# Altium schematic symbol library RD3399-20181013_Library.SchLib: 411 symbols (part 8 of 13)
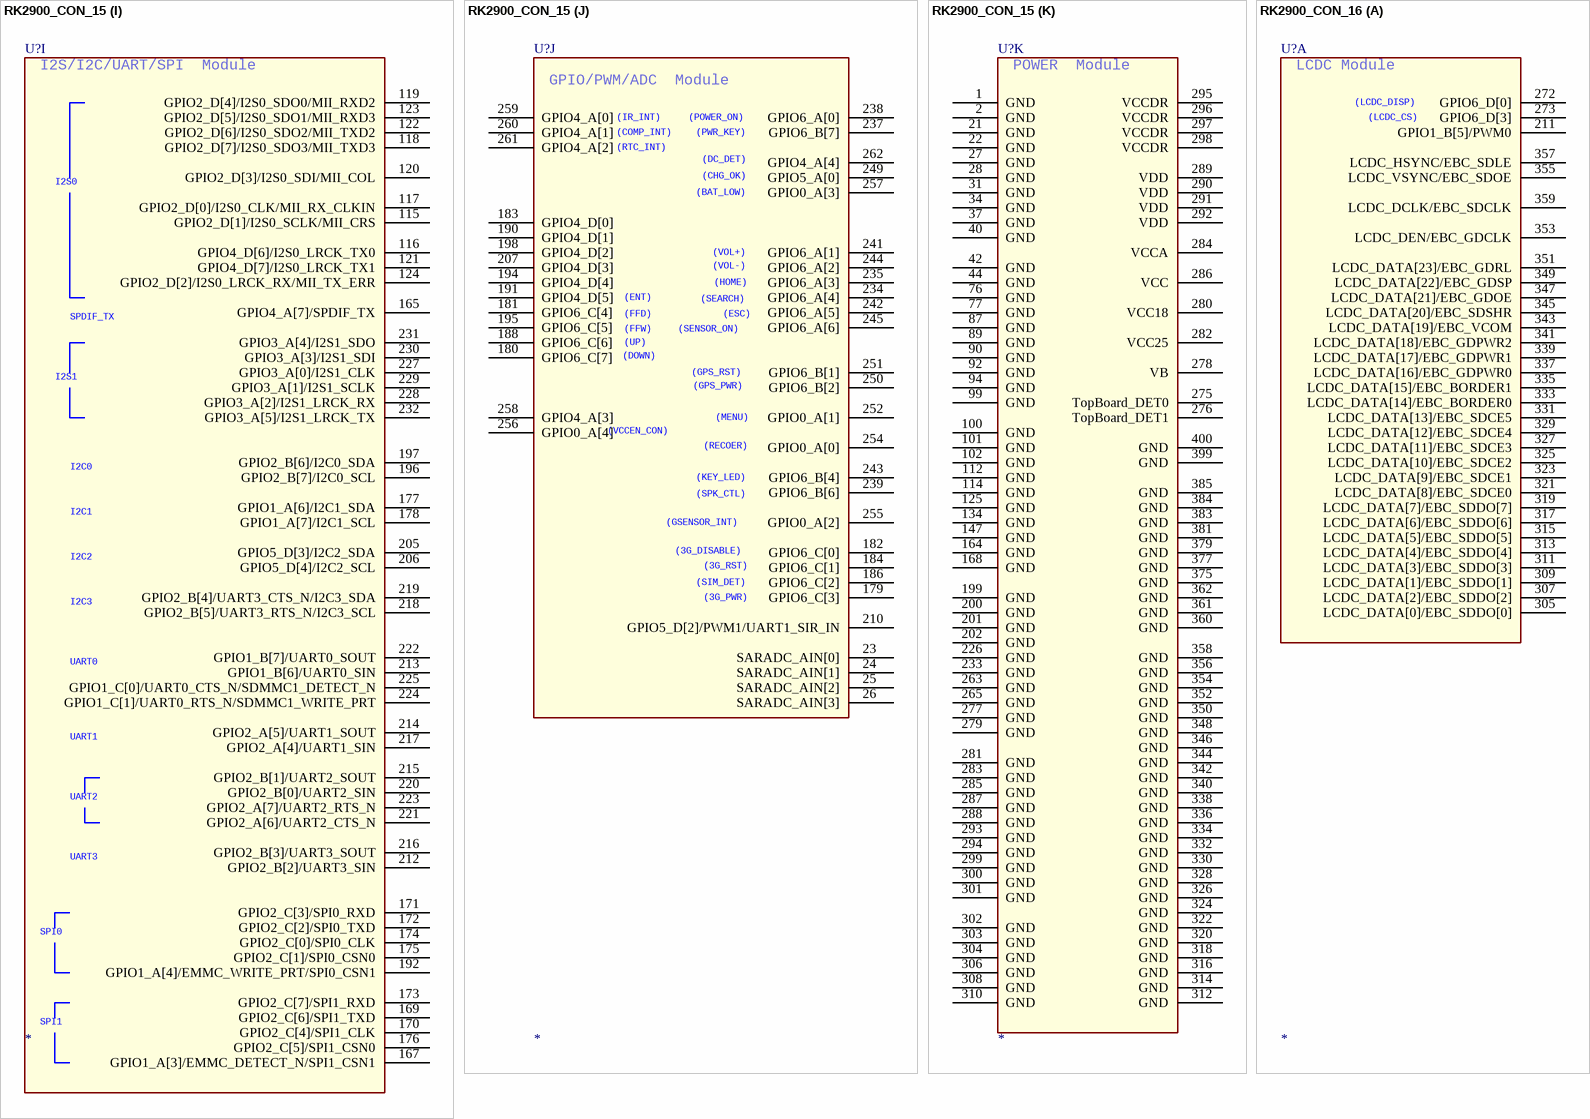
[diagram p192: symbols RK2900_CON_15 to RK2900_CON_16]

## RK2900_CON_15
designator U?
footprint RK2900_TOP
part A pins: 211 GPIO1_B[5]/PWM0, 272 GPIO6_D[0], 273 GPIO6_D[3], 305 LCDC_DATA[0]/EBC_SDDO[0], 307 LCDC_DATA[2]/EBC_SDDO[2], 309 LCDC_DATA[1]/EBC_SDDO[1], 311 LCDC_DATA[3]/EBC_SDDO[3], 313 LCDC_DATA[4]/EBC_SDDO[4], 315 LCDC_DATA[5]/EBC_SDDO[5], 317 LCDC_DATA[6]/EBC_SDDO[6], 319 LCDC_DATA[7]/EBC_SDDO[7], 321 LCDC_DATA[8]/EBC_SDCE0, 323 LCDC_DATA[9]/EBC_SDCE1, 325 LCDC_DATA[10]/EBC_SDCE2, 327 LCDC_DATA[11]/EBC_SDCE3, 329 LCDC_DATA[12]/EBC_SDCE4, 331 LCDC_DATA[13]/EBC_SDCE5, 333 LCDC_DATA[14]/EBC_BORDER0, 335 LCDC_DATA[15]/EBC_BORDER1, 337 LCDC_DATA[16]/EBC_GDPWR0, 339 LCDC_DATA[17]/EBC_GDPWR1, 341 LCDC_DATA[18]/EBC_GDPWR2, 343 LCDC_DATA[19]/EBC_VCOM, 345 LCDC_DATA[20]/EBC_SDSHR, 347 LCDC_DATA[21]/EBC_GDOE, 349 LCDC_DATA[22]/EBC_GDSP, 351 LCDC_DATA[23]/EBC_GDRL, 353 LCDC_DEN/EBC_GDCLK, 355 LCDC_VSYNC/EBC_SDOE, 357 LCDC_HSYNC/EBC_SDLE, 359 LCDC_DCLK/EBC_SDCLK
part B pins: 240 GPIO6_B[5], 271 GPIO6_D[2], 274 GPIO6_D[1], 363 GPIO1_B[0]/VIP_DATAIN[0], 364 GPIO1_B[1]/VIP_DATAIN[1], 365 GPIO1_B[2]/VIP_DATAIN[2], 366 GPIO1_B[3]/VIP_DATAIN[3], 367 VIP_DATAIN[4], 368 VIP_DATAIN[5], 369 VIP_DATAIN[6], 370 VIP_DATAIN[7], 371 VIP_DATAIN[8], 372 VIP_DATAIN[9], 373 VIP_DATAIN[10], 374 VIP_DATAIN[11], 376 VIP_VSYNC, 378 VIP_HREF, 380 VIP_CLKIN, 382 GPIO1_B[4]/VIP_CLKOUT
part C pins: 3 GPIO0_C[6]/EBC_SDCE4/SMC_DATA[14], 4 GPIO0_C[7]/EBC_SDCE5/SMC_DATA[15], 5 GPIO0_C[0]/EBC_GDSP/SMC_DATA[8], 6 GPIO0_C[1]/EBC_GDRL/SMC_DATA[9], 7 GPIO0_B[3]/EBC_BORDER0/SMC_ADDR[3]/HOST_DATA[3], 8 GPIO0_B[4]/EBC_BORDER1/SMC_WEN, 9 GPIO0_D[1]/EBC_GDCLK/SMC_ADDR[4]/HOST_DATA[4], 10 GPIO0_B[2]/EBC_SDCE2/SMC_ADDR[2]/HOST_DATA[2], 11 GPIO0_C[3]/EBC_GDPWR1/SMC_DATA[11], 12 GPIO0_B[7]/EBC_GDOE/SMC_OEN, 13 GPIO0_D[0]/EBC_SDOE/SMC_ADVN, 14 GPIO5_C[6]/EBC_SDDO[6]/SMC_DATA[6], 15 GPIO0_C[5]/EBC_SDCE3/SMC_DATA[13], 16 GPIO0_B[1]/EBC_SDCE1/SMC_ADDR[1]/HOST_DATA[1], 17 GPIO5_C[5]/EBC_SDDO[5]/SMC_DATA[5], 18 GPIO3_D[5]/SMC_ADDR[7]/HOST_DATA[7], 19 GPIO1_A[2]/SMC_CSN1, 20 GPIO0_C[4]/EBC_GDPWR2/SMC_DATA[12], 43 GPIO3_D[6]/SMC_ADDR[8]/HOST_DATA[8], 150 GPIO3_D[4]/HOST_WRN, 151 GPIO3_D[3]/HOST_RDN, 152 GPIO3_D[2]/HOST_CSN, 153 GPIO3_D[7]/SMC_ADDR[9]/HOST_DATA[9], 154 GPIO3_A[6]/SMC_ADDR[14]/HOST_DATA[14], 155 GPIO3_C[7]/SMC_ADDR[17]/HOST_DATA[17], 156 GPIO3_C[3]/SMC_ADDR[10]/HOST_DATA[10], 157 GPIO3_C[4]/SMC_ADDR[11]/HOST_DATA[11], 158 GPIO3_D[1]/SMC_ADDR[19]/HOST_ADDR1, 159 GPIO3_C[5]/SMC_ADDR[12]/HOST_DATA[12], 160 GPIO3_C[2]/SMC_ADDR[13]/HOST_DATA[13], 161 GPIO3_C[6]/SMC_ADDR[16]/HOST_DATA[16], 162 GPIO3_A[7]/SMC_ADDR[15]/HOST_DATA[15], 163 GPIO3_D[0]/SMC_ADDR[18]/HOST_ADDR0, 386 GPIO1_A[1]/SMC_CSN0, 387 GPIO5_C[4]/EBC_SDDO[4]/SMC_DATA[4], 388 GPIO5_D[1]/EBC_SDCLK/SMC_ADDR[6]/HOST_DATA[6], 389 GPIO0_B[5]/EBC_VCOM/SMC_BLSN0, 390 GPIO5_C[0]/EBC_SDDO[0]/SMC_DATA[0], 391 GPIO5_D[0]/EBC_SDLE/SMC_ADDR[5]/HOST_DATA[5], 392 GPIO5_C[1]/EBC_SDDO[1]/SMC_DATA[1], 393 GPIO0_B[6]/EBC_SDSHR/SMC_BLSN1/HOST_INT, 394 GPIO0_C[2]/EBC_GDPWR0/SMC_DATA[10], 395 GPIO5_C[2]/EBC_SDDO[2]/SMC_DATA[2], 396 GPIO5_C[3]/EBC_SDDO[3]/SMC_DATA[3], 397 GPIO5_C[7]/EBC_SDDO[7]/SMC_DATA[7], 398 GPIO0_B[0]/EBC_SDCE0/SMC_ADDR[0]/HOST_DATA[0]
part D pins: 29 OTG_DP, 30 OTG_DM, 32 HOST20_DM, 33 HOST20_DP, 35 HOST11_DM, 36 HOST11_DP, 38 OTG_ID, 39 OTG_VBUS, 41 RTCINT_OUT, 166 GPIO4_A[5]/OTG_DRV_VBUS, 187 GPIO4_A[6]/HOST20_DRV_VBUS, 264 NPOR
part E pins: 45 FLASH_ALE, 46 FLASH_DATA[1], 47 FLASH_RDY, 48 FLASH_RDN, 49 GPIO4_B[4]/FLASH_DATA[12], 50 FLASH_DATA[0], 51 FLASH_DATA[4], 52 GPIO4_B[7]/FLASH_DATA[15], 53 GPIO4_B[5]/FLASH_DATA[13], 54 FLASH_CLE, 55 GPIO4_B[1]/FLASH_DATA[9], 56 FLASH_DATA[5], 57 FLASH_CSN0, 58 FLASH_DATA[6], 59 GPIO4_B[0]/FLASH_DATA[8], 60 FLASH_DATA[7], 61 FLASH_DATA[2], 62 FLASH_DATA[3], 63 GPIO0_D[7]/FLASH_CSN6, 64 FLASH_WP, 65 FLASH_WRN, 66 GPIO4_B[6]/FLASH_DATA[14], 67 GPIO0_D[3]/FLASH_CSN2, 68 GPIO0_D[4]/FLASH_CSN3, 69 GPIO0_D[2]/FLASH_CSN1, 70 GPIO0_D[6]/FLASH_CSN5, 71 GPIO1_A[0]/FLASH_CSN7/MDDR_TQ, 72 GPIO0_A[5]/FLASH_DQS, 73 GPIO0_D[5]/FLASH_CSN4, 74 GPIO4_B[2]/FLASH_DATA[10], 75 GPIO4_B[3]/FLASH_DATA[11], 78 GPIO3_B[3]/EMMC_DATA1, 79 GPIO3_B[1]/EMMC_CMD, 80 GPIO3_B[6]/EMMC_DATA4, 81 GPIO3_C[1]/EMMC_DATA7, 82 GPIO3_B[5]/EMMC_DATA3, 83 GPIO3_B[4]/EMMC_DATA2, 84 GPIO3_B[2]/EMMC_DATA0, 85 GPIO3_C[0]/EMMC_DATA6, 86 GPIO3_B[7]/EMMC_DATA5, 88 GPIO3_B[0]/EMMC_CLKOUT, 203 GPIO1_A[5]/EMMC_PWR_EN/PWM3, 246 GPIO6_A[7]
part F pins: 91 GPIO1_C[2]/SDMMC1_CMD, 93 GPIO1_C[7]/SDMMC1_CLKOUT, 95 GPIO1_C[4]/SDMMC1_DATA1, 96 GPIO1_C[3]/SDMMC1_DATA0, 97 GPIO1_C[6]/SDMMC1_DATA3, 98 GPIO1_C[5]/SDMMC1_DATA2, 103 GPIO1_D[3]/SDMMC0_DATA1, 104 GPIO1_D[1]/SDMMC0_CMD, 105 GPIO1_D[5]/SDMMC0_DATA3, 106 GPIO2_A[1]/SDMMC0_DATA7, 107 GPIO1_D[7]/SDMMC0_DATA5, 108 GPIO1_D[2]/SDMMC0_DATA0, 109 GPIO2_A[0]/SDMMC0_DATA6, 110 GPIO1_D[6]/SDMMC0_DATA4, 111 GPIO1_D[4]/SDMMC0_DATA2, 113 GPIO1_D[0]/SDMMC0_CLKOUT, 185 GPIO5_D[7], 193 GPIO2_A[2]/SDMMC0_DETECT_N, 204 GPIO2_A[3]/SDMMC0_WRITE_PRT/PWM2/UART1_SIR_OUT, 208 GPIO5_D[5]/SDMMC0_PWR_EN, 209 GPIO5_D[6]/SDMMC1_PWR_EN
part G pins: 126 GPIO4_C[7]/RMII_RXD0/MII_RXD0, 127 GPIO4_C[3]/RMII_TXD0/MII_TXD0, 128 GPIO4_C[6]/RMII_RXD1/MII_RXD1, 129 GPIO4_C[1]/RMII_TX_EN/MII_TX_EN, 130 GPIO4_C[0]/RMII_CLKOUT/RMII_CLKIN, 131 GPIO4_C[2]/RMII_TXD1/MII_TXD1, 132 GPIO4_C[5]/RMII_CRS_DVALID/MII_RXD_VALID, 133 GPIO4_C[4]/RMII_RX_ERR/MII_RX_ERR, 148 GPIO5_A[3]/MII_TX_CLKIN, 149 GPIO0_A[6]/MII_MD, 189 GPIO0_A[7]/MII_MDCLK, 236 GPIO5_A[2], 248 GPIO6_B[0], 253 GPIO5_A[1], 266 TRST_N, 267 TCK, 268 TDI, 269 TMS, 270 TDO
part H pins: 135 GPIO5_A[7]/HSADC_DATA2, 136 GPIO5_B[5]/HSADC_DATA8/TS_VALID, 137 GPIO5_A[5]/HSADC_DATA0, 138 GPIO5_B[1]/HSADC_DATA4, 139 GPIO5_B[0]/HSADC_DATA3, 140 GPIO5_A[6]/HSADC_DATA1, 141 GPIO5_B[3]/HSADC_DATA6, 142 GPIO5_B[2]/HSADC_DATA5, 143 GPIO5_B[4]/HSADC_DATA7, 144 GPIO5_A[4]/TS_SYNC, 145 GPIO5_B[6]/HSADC_DATA9/TS_FAIL, 146 GPIO5_B[7]/HSADC_CLKOUT/GPS_CLK, 247 GPIO6_B[3]
part I pins: 115 GPIO2_D[1]/I2S0_SCLK/MII_CRS, 116 GPIO4_D[6]/I2S0_LRCK_TX0, 117 GPIO2_D[0]/I2S0_CLK/MII_RX_CLKIN, 118 GPIO2_D[7]/I2S0_SDO3/MII_TXD3, 119 GPIO2_D[4]/I2S0_SDO0/MII_RXD2, 120 GPIO2_D[3]/I2S0_SDI/MII_COL, 121 GPIO4_D[7]/I2S0_LRCK_TX1, 122 GPIO2_D[6]/I2S0_SDO2/MII_TXD2, 123 GPIO2_D[5]/I2S0_SDO1/MII_RXD3, 124 GPIO2_D[2]/I2S0_LRCK_RX/MII_TX_ERR, 165 GPIO4_A[7]/SPDIF_TX, 167 GPIO1_A[3]/EMMC_DETECT_N/SPI1_CSN1, 169 GPIO2_C[6]/SPI1_TXD, 170 GPIO2_C[4]/SPI1_CLK, 171 GPIO2_C[3]/SPI0_RXD, 172 GPIO2_C[2]/SPI0_TXD, 173 GPIO2_C[7]/SPI1_RXD, 174 GPIO2_C[0]/SPI0_CLK, 175 GPIO2_C[1]/SPI0_CSN0, 176 GPIO2_C[5]/SPI1_CSN0, 177 GPIO1_A[6]/I2C1_SDA, 178 GPIO1_A[7]/I2C1_SCL, 192 GPIO1_A[4]/EMMC_WRITE_PRT/SPI0_CSN1, 196 GPIO2_B[7]/I2C0_SCL, 197 GPIO2_B[6]/I2C0_SDA, 205 GPIO5_D[3]/I2C2_SDA, 206 GPIO5_D[4]/I2C2_SCL, 212 GPIO2_B[2]/UART3_SIN, 213 GPIO1_B[6]/UART0_SIN, 214 GPIO2_A[5]/UART1_SOUT, 215 GPIO2_B[1]/UART2_SOUT, 216 GPIO2_B[3]/UART3_SOUT, 217 GPIO2_A[4]/UART1_SIN, 218 GPIO2_B[5]/UART3_RTS_N/I2C3_SCL, 219 GPIO2_B[4]/UART3_CTS_N/I2C3_SDA, 220 GPIO2_B[0]/UART2_SIN, 221 GPIO2_A[6]/UART2_CTS_N, 222 GPIO1_B[7]/UART0_SOUT, 223 GPIO2_A[7]/UART2_RTS_N, 224 GPIO1_C[1]/UART0_RTS_N/SDMMC1_WRITE_PRT, 225 GPIO1_C[0]/UART0_CTS_N/SDMMC1_DETECT_N, 227 GPIO3_A[0]/I2S1_CLK, 228 GPIO3_A[2]/I2S1_LRCK_RX, 229 GPIO3_A[1]/I2S1_SCLK, 230 GPIO3_A[3]/I2S1_SDI, 231 GPIO3_A[4]/I2S1_SDO, 232 GPIO3_A[5]/I2S1_LRCK_TX
part J pins: 23 SARADC_AIN[0], 24 SARADC_AIN[1], 25 SARADC_AIN[2], 26 SARADC_AIN[3], 179 GPIO6_C[3], 180 GPIO6_C[7], 181 GPIO6_C[4], 182 GPIO6_C[0], 183 GPIO4_D[0], 184 GPIO6_C[1], 186 GPIO6_C[2], 188 GPIO6_C[6], 190 GPIO4_D[1], 191 GPIO4_D[5], 194 GPIO4_D[4], 195 GPIO6_C[5], 198 GPIO4_D[2], 207 GPIO4_D[3], 210 GPIO5_D[2]/PWM1/UART1_SIR_IN, 234 GPIO6_A[4], 235 GPIO6_A[3], 237 GPIO6_B[7], 238 GPIO6_A[0], 239 GPIO6_B[6], 241 GPIO6_A[1], 242 GPIO6_A[5], 243 GPIO6_B[4], 244 GPIO6_A[2], 245 GPIO6_A[6], 249 GPIO5_A[0], 250 GPIO6_B[2], 251 GPIO6_B[1], 252 GPIO0_A[1], 254 GPIO0_A[0], 255 GPIO0_A[2], 256 GPIO0_A[4], 257 GPIO0_A[3], 258 GPIO4_A[3], 259 GPIO4_A[0], 260 GPIO4_A[1], 261 GPIO4_A[2], 262 GPIO4_A[4]
part K pins: 1 GND, 2 GND, 21 GND, 22 GND, 27 GND, 28 GND, 31 GND, 34 GND, 37 GND, 40 GND, 42 GND, 44 GND, 76 GND, 77 GND, 87 GND, 89 GND, 90 GND, 92 GND, 94 GND, 99 GND, 100 GND, 101 GND, 102 GND, 112 GND, 114 GND, 125 GND, 134 GND, 147 GND, 164 GND, 168 GND, 199 GND, 200 GND, 201 GND, 202 GND, 226 GND, 233 GND, 263 GND, 265 GND, 275 TopBoard_DET0, 276 TopBoard_DET1, 277 GND, 278 VB, 279 GND, 280 VCC18, 281 GND, 282 VCC25, 283 GND, 284 VCCA, 285 GND, 286 VCC, 287 GND, 288 GND, 289 VDD, 290 VDD, 291 VDD, 292 VDD, 293 GND, 294 GND, 295 VCCDR, 296 VCCDR, 297 VCCDR, 298 VCCDR, 299 GND, 300 GND, 301 GND, 302 GND, 303 GND, 304 GND, 306 GND, 308 GND, 310 GND, 312 GND, 314 GND, 316 GND, 318 GND, 320 GND, 322 GND, 324 GND, 326 GND, 328 GND, 330 GND, 332 GND, 334 GND, 336 GND, 338 GND, 340 GND, 342 GND, 344 GND, 346 GND, 348 GND, 350 GND, 352 GND, 354 GND, 356 GND, 358 GND, 360 GND, 361 GND, 362 GND, 375 GND, 377 GND, 379 GND, 381 GND, 383 GND, 384 GND, 385 GND, 399 GND, 400 GND
part A text: LCDC Module; (LCDC_DISP); (LCDC_CS)
part B text: VIP  Module; (Flash_LED); (VIP_PWDN0); (VIP_PWDN1)
part C text: SRAM/EBC/HOST  Module
part D text: USB/Crystal/NPOR / Module
part E text: NAND FLASH/EMMC / Module; NAND FLASH; EMMC; (EMMC_RESET)
part F text: SDMMC  Module; (WIFI_RST)
part G text: RMII/MII/JTAG  Module; (RMII_PWR); (RMII_LINK); (RMII_INT); JTAG
part H text: HSADC  Module; (TV_PWR)
part I text: I2S/I2C/UART/SPI  Module; I2S0; SPDIF_TX; I2S1; I2C0; I2C1; I2C2; I2C3; UART0; UART1; UART2; UART3; SPI0; SPI1
part J text: GPIO/PWM/ADC  Module; (IR_INT); (POWER_ON); (COMP_INT); (PWR_KEY); (RTC_INT); (DC_DET); (CHG_OK); (BAT_LOW); (VOL+); (VOL-); (HOME); (ENT); (SEARCH); (FFD); (ESC); (FFW); (SENSOR_ON); (UP); (DOWN); (GPS_RST); (GPS_PWR); (MENU); (VCCEN_CON); (RECOER); (KEY_LED); (SPK_CTL); (GSENSOR_INT); (3G_DISABLE); (3G_RST); (SIM_DET); (3G_PWR)
part K text: POWER  Module

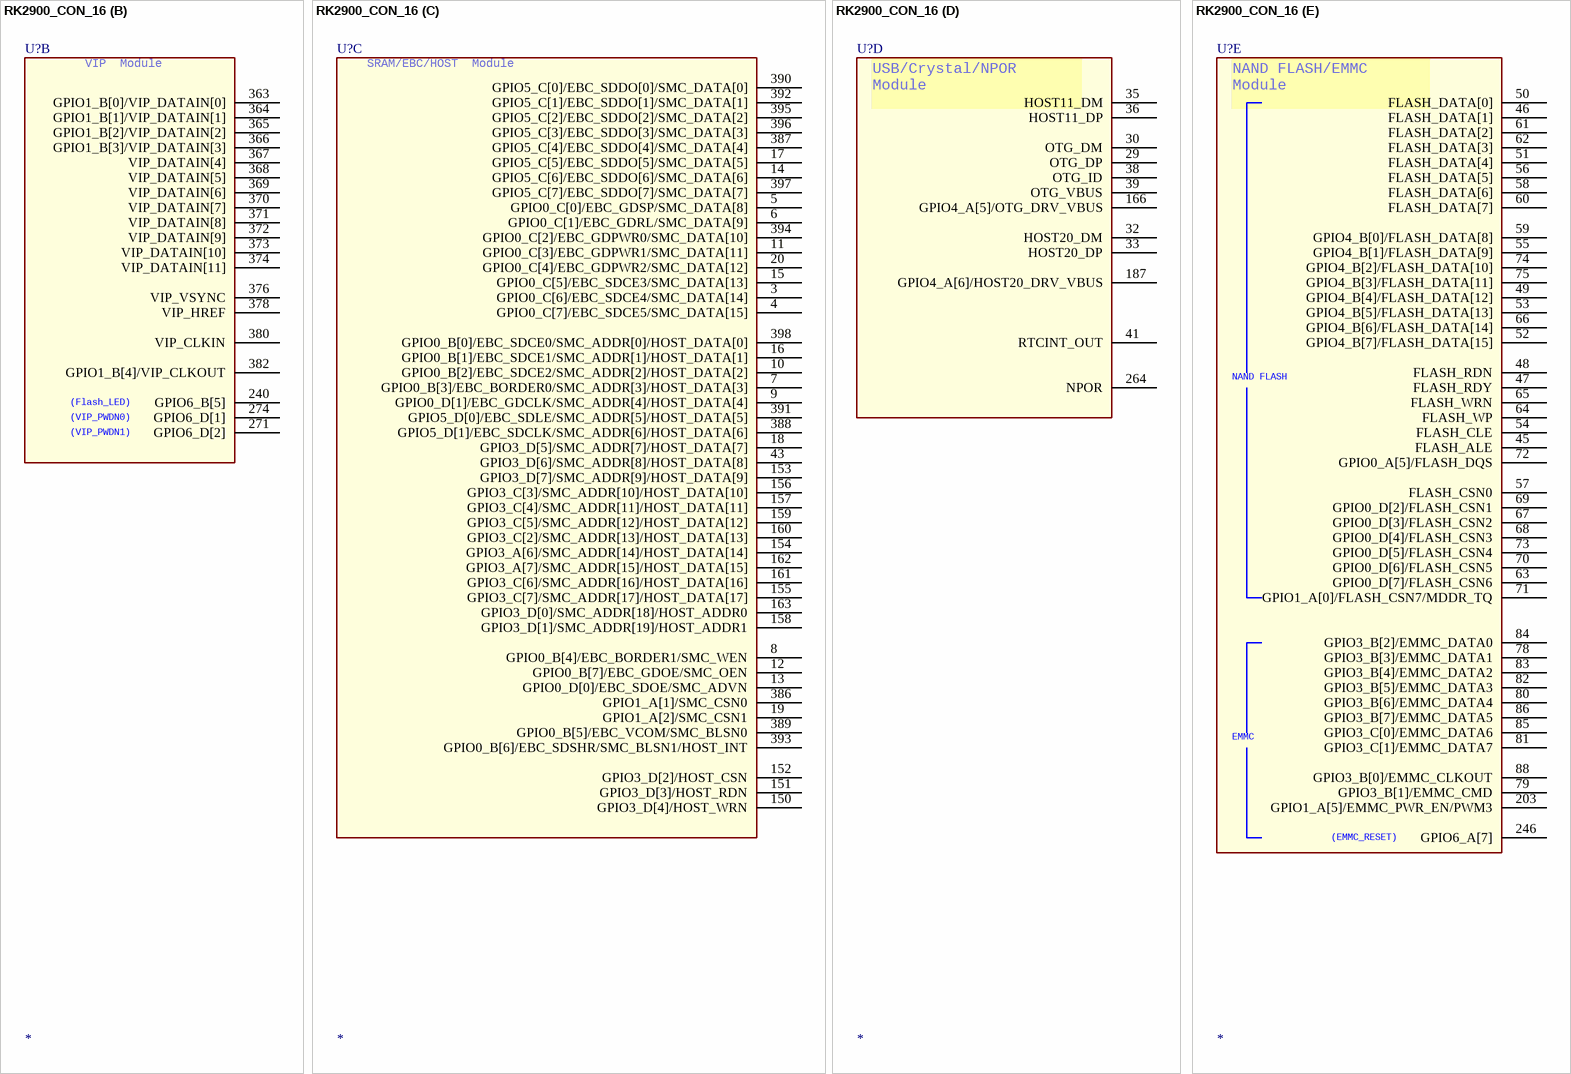
[diagram p96: symbol RK2900_CON_16]

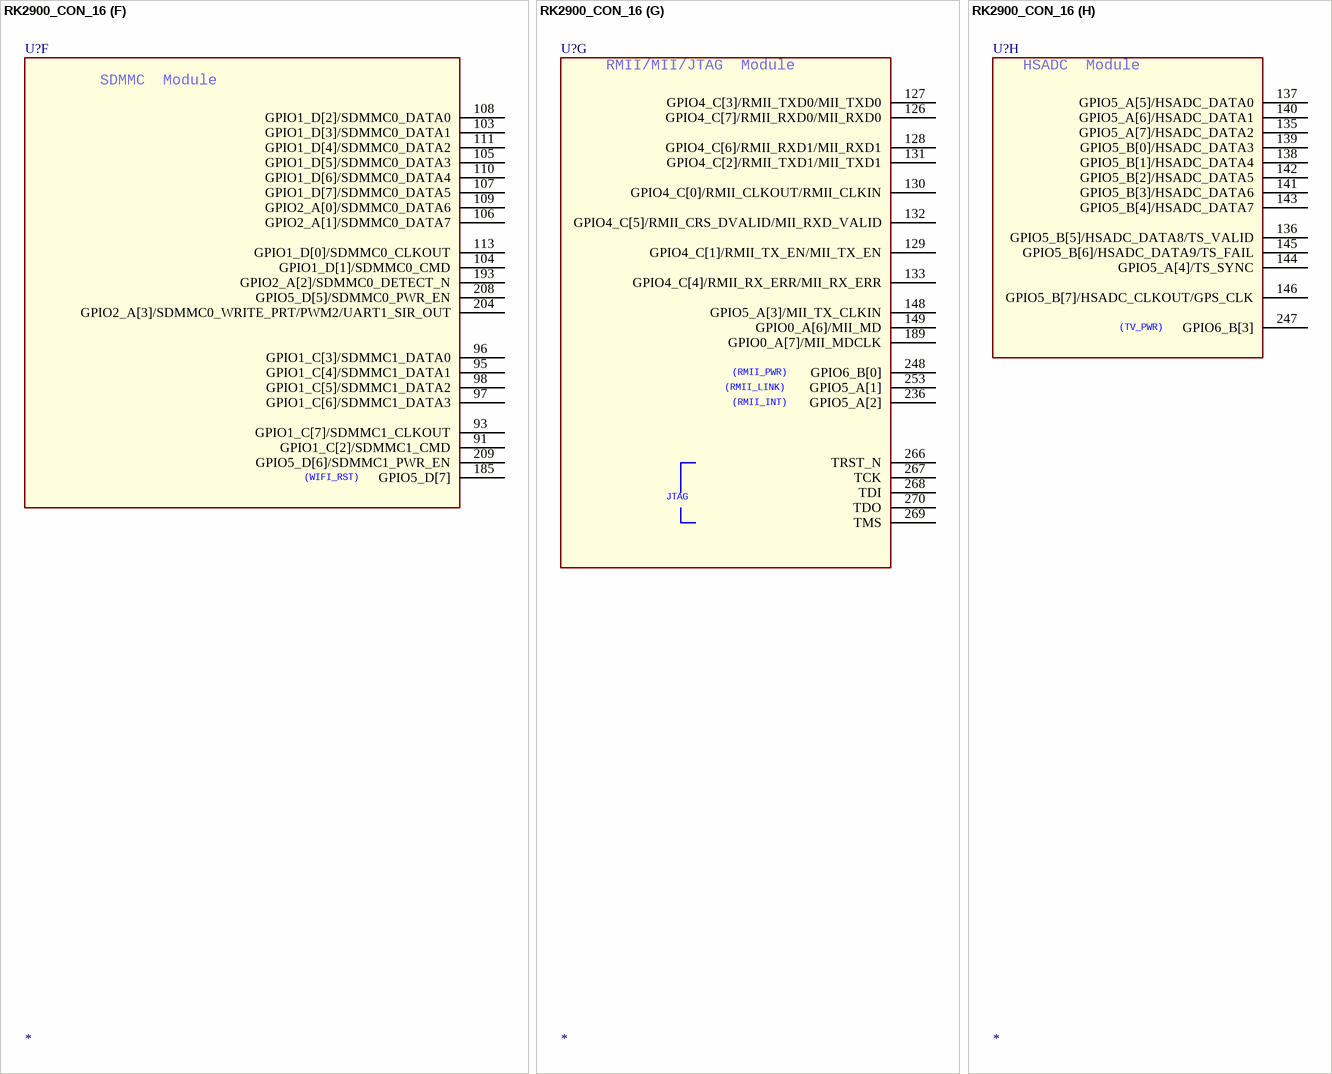
[diagram p97: symbol RK2900_CON_16]

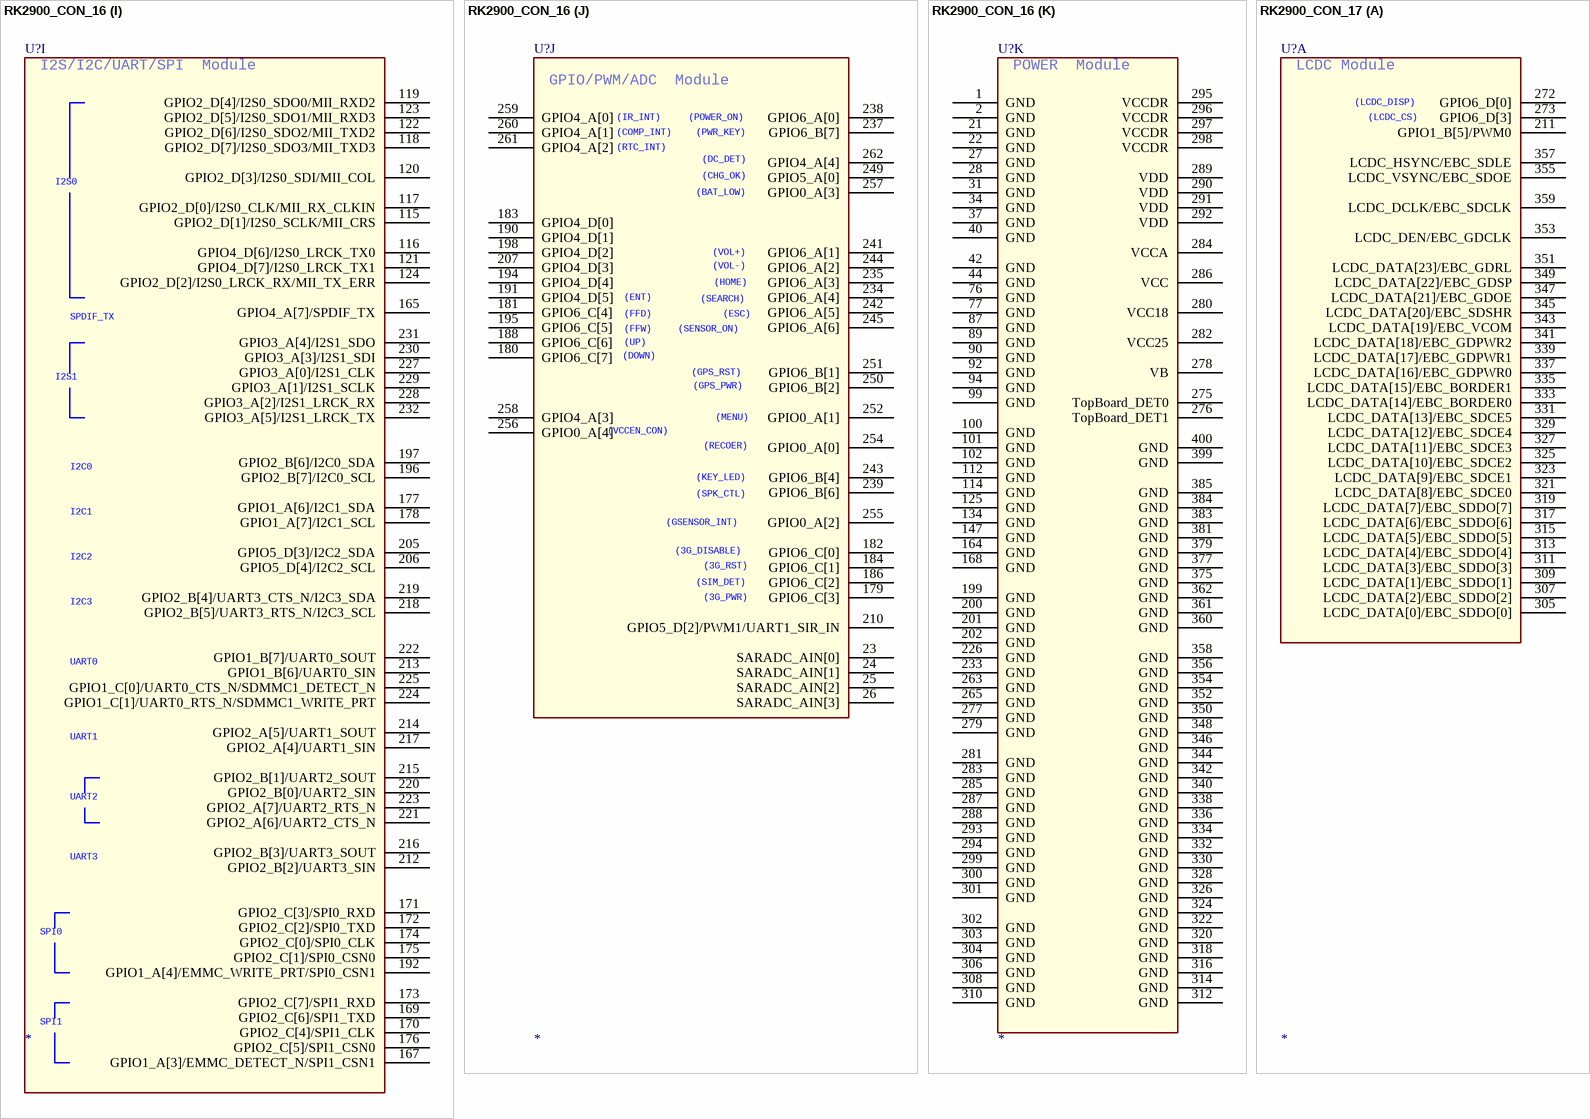
[diagram p98: symbols RK2900_CON_16 to RK2900_CON_17]

## RK2900_CON_16
designator U?
footprint RK2900_TOP
part A pins: 211 GPIO1_B[5]/PWM0, 272 GPIO6_D[0], 273 GPIO6_D[3], 305 LCDC_DATA[0]/EBC_SDDO[0], 307 LCDC_DATA[2]/EBC_SDDO[2], 309 LCDC_DATA[1]/EBC_SDDO[1], 311 LCDC_DATA[3]/EBC_SDDO[3], 313 LCDC_DATA[4]/EBC_SDDO[4], 315 LCDC_DATA[5]/EBC_SDDO[5], 317 LCDC_DATA[6]/EBC_SDDO[6], 319 LCDC_DATA[7]/EBC_SDDO[7], 321 LCDC_DATA[8]/EBC_SDCE0, 323 LCDC_DATA[9]/EBC_SDCE1, 325 LCDC_DATA[10]/EBC_SDCE2, 327 LCDC_DATA[11]/EBC_SDCE3, 329 LCDC_DATA[12]/EBC_SDCE4, 331 LCDC_DATA[13]/EBC_SDCE5, 333 LCDC_DATA[14]/EBC_BORDER0, 335 LCDC_DATA[15]/EBC_BORDER1, 337 LCDC_DATA[16]/EBC_GDPWR0, 339 LCDC_DATA[17]/EBC_GDPWR1, 341 LCDC_DATA[18]/EBC_GDPWR2, 343 LCDC_DATA[19]/EBC_VCOM, 345 LCDC_DATA[20]/EBC_SDSHR, 347 LCDC_DATA[21]/EBC_GDOE, 349 LCDC_DATA[22]/EBC_GDSP, 351 LCDC_DATA[23]/EBC_GDRL, 353 LCDC_DEN/EBC_GDCLK, 355 LCDC_VSYNC/EBC_SDOE, 357 LCDC_HSYNC/EBC_SDLE, 359 LCDC_DCLK/EBC_SDCLK
part B pins: 240 GPIO6_B[5], 271 GPIO6_D[2], 274 GPIO6_D[1], 363 GPIO1_B[0]/VIP_DATAIN[0], 364 GPIO1_B[1]/VIP_DATAIN[1], 365 GPIO1_B[2]/VIP_DATAIN[2], 366 GPIO1_B[3]/VIP_DATAIN[3], 367 VIP_DATAIN[4], 368 VIP_DATAIN[5], 369 VIP_DATAIN[6], 370 VIP_DATAIN[7], 371 VIP_DATAIN[8], 372 VIP_DATAIN[9], 373 VIP_DATAIN[10], 374 VIP_DATAIN[11], 376 VIP_VSYNC, 378 VIP_HREF, 380 VIP_CLKIN, 382 GPIO1_B[4]/VIP_CLKOUT
part C pins: 3 GPIO0_C[6]/EBC_SDCE4/SMC_DATA[14], 4 GPIO0_C[7]/EBC_SDCE5/SMC_DATA[15], 5 GPIO0_C[0]/EBC_GDSP/SMC_DATA[8], 6 GPIO0_C[1]/EBC_GDRL/SMC_DATA[9], 7 GPIO0_B[3]/EBC_BORDER0/SMC_ADDR[3]/HOST_DATA[3], 8 GPIO0_B[4]/EBC_BORDER1/SMC_WEN, 9 GPIO0_D[1]/EBC_GDCLK/SMC_ADDR[4]/HOST_DATA[4], 10 GPIO0_B[2]/EBC_SDCE2/SMC_ADDR[2]/HOST_DATA[2], 11 GPIO0_C[3]/EBC_GDPWR1/SMC_DATA[11], 12 GPIO0_B[7]/EBC_GDOE/SMC_OEN, 13 GPIO0_D[0]/EBC_SDOE/SMC_ADVN, 14 GPIO5_C[6]/EBC_SDDO[6]/SMC_DATA[6], 15 GPIO0_C[5]/EBC_SDCE3/SMC_DATA[13], 16 GPIO0_B[1]/EBC_SDCE1/SMC_ADDR[1]/HOST_DATA[1], 17 GPIO5_C[5]/EBC_SDDO[5]/SMC_DATA[5], 18 GPIO3_D[5]/SMC_ADDR[7]/HOST_DATA[7], 19 GPIO1_A[2]/SMC_CSN1, 20 GPIO0_C[4]/EBC_GDPWR2/SMC_DATA[12], 43 GPIO3_D[6]/SMC_ADDR[8]/HOST_DATA[8], 150 GPIO3_D[4]/HOST_WRN, 151 GPIO3_D[3]/HOST_RDN, 152 GPIO3_D[2]/HOST_CSN, 153 GPIO3_D[7]/SMC_ADDR[9]/HOST_DATA[9], 154 GPIO3_A[6]/SMC_ADDR[14]/HOST_DATA[14], 155 GPIO3_C[7]/SMC_ADDR[17]/HOST_DATA[17], 156 GPIO3_C[3]/SMC_ADDR[10]/HOST_DATA[10], 157 GPIO3_C[4]/SMC_ADDR[11]/HOST_DATA[11], 158 GPIO3_D[1]/SMC_ADDR[19]/HOST_ADDR1, 159 GPIO3_C[5]/SMC_ADDR[12]/HOST_DATA[12], 160 GPIO3_C[2]/SMC_ADDR[13]/HOST_DATA[13], 161 GPIO3_C[6]/SMC_ADDR[16]/HOST_DATA[16], 162 GPIO3_A[7]/SMC_ADDR[15]/HOST_DATA[15], 163 GPIO3_D[0]/SMC_ADDR[18]/HOST_ADDR0, 386 GPIO1_A[1]/SMC_CSN0, 387 GPIO5_C[4]/EBC_SDDO[4]/SMC_DATA[4], 388 GPIO5_D[1]/EBC_SDCLK/SMC_ADDR[6]/HOST_DATA[6], 389 GPIO0_B[5]/EBC_VCOM/SMC_BLSN0, 390 GPIO5_C[0]/EBC_SDDO[0]/SMC_DATA[0], 391 GPIO5_D[0]/EBC_SDLE/SMC_ADDR[5]/HOST_DATA[5], 392 GPIO5_C[1]/EBC_SDDO[1]/SMC_DATA[1], 393 GPIO0_B[6]/EBC_SDSHR/SMC_BLSN1/HOST_INT, 394 GPIO0_C[2]/EBC_GDPWR0/SMC_DATA[10], 395 GPIO5_C[2]/EBC_SDDO[2]/SMC_DATA[2], 396 GPIO5_C[3]/EBC_SDDO[3]/SMC_DATA[3], 397 GPIO5_C[7]/EBC_SDDO[7]/SMC_DATA[7], 398 GPIO0_B[0]/EBC_SDCE0/SMC_ADDR[0]/HOST_DATA[0]
part D pins: 29 OTG_DP, 30 OTG_DM, 32 HOST20_DM, 33 HOST20_DP, 35 HOST11_DM, 36 HOST11_DP, 38 OTG_ID, 39 OTG_VBUS, 41 RTCINT_OUT, 166 GPIO4_A[5]/OTG_DRV_VBUS, 187 GPIO4_A[6]/HOST20_DRV_VBUS, 264 NPOR
part E pins: 45 FLASH_ALE, 46 FLASH_DATA[1], 47 FLASH_RDY, 48 FLASH_RDN, 49 GPIO4_B[4]/FLASH_DATA[12], 50 FLASH_DATA[0], 51 FLASH_DATA[4], 52 GPIO4_B[7]/FLASH_DATA[15], 53 GPIO4_B[5]/FLASH_DATA[13], 54 FLASH_CLE, 55 GPIO4_B[1]/FLASH_DATA[9], 56 FLASH_DATA[5], 57 FLASH_CSN0, 58 FLASH_DATA[6], 59 GPIO4_B[0]/FLASH_DATA[8], 60 FLASH_DATA[7], 61 FLASH_DATA[2], 62 FLASH_DATA[3], 63 GPIO0_D[7]/FLASH_CSN6, 64 FLASH_WP, 65 FLASH_WRN, 66 GPIO4_B[6]/FLASH_DATA[14], 67 GPIO0_D[3]/FLASH_CSN2, 68 GPIO0_D[4]/FLASH_CSN3, 69 GPIO0_D[2]/FLASH_CSN1, 70 GPIO0_D[6]/FLASH_CSN5, 71 GPIO1_A[0]/FLASH_CSN7/MDDR_TQ, 72 GPIO0_A[5]/FLASH_DQS, 73 GPIO0_D[5]/FLASH_CSN4, 74 GPIO4_B[2]/FLASH_DATA[10], 75 GPIO4_B[3]/FLASH_DATA[11], 78 GPIO3_B[3]/EMMC_DATA1, 79 GPIO3_B[1]/EMMC_CMD, 80 GPIO3_B[6]/EMMC_DATA4, 81 GPIO3_C[1]/EMMC_DATA7, 82 GPIO3_B[5]/EMMC_DATA3, 83 GPIO3_B[4]/EMMC_DATA2, 84 GPIO3_B[2]/EMMC_DATA0, 85 GPIO3_C[0]/EMMC_DATA6, 86 GPIO3_B[7]/EMMC_DATA5, 88 GPIO3_B[0]/EMMC_CLKOUT, 203 GPIO1_A[5]/EMMC_PWR_EN/PWM3, 246 GPIO6_A[7]
part F pins: 91 GPIO1_C[2]/SDMMC1_CMD, 93 GPIO1_C[7]/SDMMC1_CLKOUT, 95 GPIO1_C[4]/SDMMC1_DATA1, 96 GPIO1_C[3]/SDMMC1_DATA0, 97 GPIO1_C[6]/SDMMC1_DATA3, 98 GPIO1_C[5]/SDMMC1_DATA2, 103 GPIO1_D[3]/SDMMC0_DATA1, 104 GPIO1_D[1]/SDMMC0_CMD, 105 GPIO1_D[5]/SDMMC0_DATA3, 106 GPIO2_A[1]/SDMMC0_DATA7, 107 GPIO1_D[7]/SDMMC0_DATA5, 108 GPIO1_D[2]/SDMMC0_DATA0, 109 GPIO2_A[0]/SDMMC0_DATA6, 110 GPIO1_D[6]/SDMMC0_DATA4, 111 GPIO1_D[4]/SDMMC0_DATA2, 113 GPIO1_D[0]/SDMMC0_CLKOUT, 185 GPIO5_D[7], 193 GPIO2_A[2]/SDMMC0_DETECT_N, 204 GPIO2_A[3]/SDMMC0_WRITE_PRT/PWM2/UART1_SIR_OUT, 208 GPIO5_D[5]/SDMMC0_PWR_EN, 209 GPIO5_D[6]/SDMMC1_PWR_EN
part G pins: 126 GPIO4_C[7]/RMII_RXD0/MII_RXD0, 127 GPIO4_C[3]/RMII_TXD0/MII_TXD0, 128 GPIO4_C[6]/RMII_RXD1/MII_RXD1, 129 GPIO4_C[1]/RMII_TX_EN/MII_TX_EN, 130 GPIO4_C[0]/RMII_CLKOUT/RMII_CLKIN, 131 GPIO4_C[2]/RMII_TXD1/MII_TXD1, 132 GPIO4_C[5]/RMII_CRS_DVALID/MII_RXD_VALID, 133 GPIO4_C[4]/RMII_RX_ERR/MII_RX_ERR, 148 GPIO5_A[3]/MII_TX_CLKIN, 149 GPIO0_A[6]/MII_MD, 189 GPIO0_A[7]/MII_MDCLK, 236 GPIO5_A[2], 248 GPIO6_B[0], 253 GPIO5_A[1], 266 TRST_N, 267 TCK, 268 TDI, 269 TMS, 270 TDO
part H pins: 135 GPIO5_A[7]/HSADC_DATA2, 136 GPIO5_B[5]/HSADC_DATA8/TS_VALID, 137 GPIO5_A[5]/HSADC_DATA0, 138 GPIO5_B[1]/HSADC_DATA4, 139 GPIO5_B[0]/HSADC_DATA3, 140 GPIO5_A[6]/HSADC_DATA1, 141 GPIO5_B[3]/HSADC_DATA6, 142 GPIO5_B[2]/HSADC_DATA5, 143 GPIO5_B[4]/HSADC_DATA7, 144 GPIO5_A[4]/TS_SYNC, 145 GPIO5_B[6]/HSADC_DATA9/TS_FAIL, 146 GPIO5_B[7]/HSADC_CLKOUT/GPS_CLK, 247 GPIO6_B[3]
part I pins: 115 GPIO2_D[1]/I2S0_SCLK/MII_CRS, 116 GPIO4_D[6]/I2S0_LRCK_TX0, 117 GPIO2_D[0]/I2S0_CLK/MII_RX_CLKIN, 118 GPIO2_D[7]/I2S0_SDO3/MII_TXD3, 119 GPIO2_D[4]/I2S0_SDO0/MII_RXD2, 120 GPIO2_D[3]/I2S0_SDI/MII_COL, 121 GPIO4_D[7]/I2S0_LRCK_TX1, 122 GPIO2_D[6]/I2S0_SDO2/MII_TXD2, 123 GPIO2_D[5]/I2S0_SDO1/MII_RXD3, 124 GPIO2_D[2]/I2S0_LRCK_RX/MII_TX_ERR, 165 GPIO4_A[7]/SPDIF_TX, 167 GPIO1_A[3]/EMMC_DETECT_N/SPI1_CSN1, 169 GPIO2_C[6]/SPI1_TXD, 170 GPIO2_C[4]/SPI1_CLK, 171 GPIO2_C[3]/SPI0_RXD, 172 GPIO2_C[2]/SPI0_TXD, 173 GPIO2_C[7]/SPI1_RXD, 174 GPIO2_C[0]/SPI0_CLK, 175 GPIO2_C[1]/SPI0_CSN0, 176 GPIO2_C[5]/SPI1_CSN0, 177 GPIO1_A[6]/I2C1_SDA, 178 GPIO1_A[7]/I2C1_SCL, 192 GPIO1_A[4]/EMMC_WRITE_PRT/SPI0_CSN1, 196 GPIO2_B[7]/I2C0_SCL, 197 GPIO2_B[6]/I2C0_SDA, 205 GPIO5_D[3]/I2C2_SDA, 206 GPIO5_D[4]/I2C2_SCL, 212 GPIO2_B[2]/UART3_SIN, 213 GPIO1_B[6]/UART0_SIN, 214 GPIO2_A[5]/UART1_SOUT, 215 GPIO2_B[1]/UART2_SOUT, 216 GPIO2_B[3]/UART3_SOUT, 217 GPIO2_A[4]/UART1_SIN, 218 GPIO2_B[5]/UART3_RTS_N/I2C3_SCL, 219 GPIO2_B[4]/UART3_CTS_N/I2C3_SDA, 220 GPIO2_B[0]/UART2_SIN, 221 GPIO2_A[6]/UART2_CTS_N, 222 GPIO1_B[7]/UART0_SOUT, 223 GPIO2_A[7]/UART2_RTS_N, 224 GPIO1_C[1]/UART0_RTS_N/SDMMC1_WRITE_PRT, 225 GPIO1_C[0]/UART0_CTS_N/SDMMC1_DETECT_N, 227 GPIO3_A[0]/I2S1_CLK, 228 GPIO3_A[2]/I2S1_LRCK_RX, 229 GPIO3_A[1]/I2S1_SCLK, 230 GPIO3_A[3]/I2S1_SDI, 231 GPIO3_A[4]/I2S1_SDO, 232 GPIO3_A[5]/I2S1_LRCK_TX
part J pins: 23 SARADC_AIN[0], 24 SARADC_AIN[1], 25 SARADC_AIN[2], 26 SARADC_AIN[3], 179 GPIO6_C[3], 180 GPIO6_C[7], 181 GPIO6_C[4], 182 GPIO6_C[0], 183 GPIO4_D[0], 184 GPIO6_C[1], 186 GPIO6_C[2], 188 GPIO6_C[6], 190 GPIO4_D[1], 191 GPIO4_D[5], 194 GPIO4_D[4], 195 GPIO6_C[5], 198 GPIO4_D[2], 207 GPIO4_D[3], 210 GPIO5_D[2]/PWM1/UART1_SIR_IN, 234 GPIO6_A[4], 235 GPIO6_A[3], 237 GPIO6_B[7], 238 GPIO6_A[0], 239 GPIO6_B[6], 241 GPIO6_A[1], 242 GPIO6_A[5], 243 GPIO6_B[4], 244 GPIO6_A[2], 245 GPIO6_A[6], 249 GPIO5_A[0], 250 GPIO6_B[2], 251 GPIO6_B[1], 252 GPIO0_A[1], 254 GPIO0_A[0], 255 GPIO0_A[2], 256 GPIO0_A[4], 257 GPIO0_A[3], 258 GPIO4_A[3], 259 GPIO4_A[0], 260 GPIO4_A[1], 261 GPIO4_A[2], 262 GPIO4_A[4]
part K pins: 1 GND, 2 GND, 21 GND, 22 GND, 27 GND, 28 GND, 31 GND, 34 GND, 37 GND, 40 GND, 42 GND, 44 GND, 76 GND, 77 GND, 87 GND, 89 GND, 90 GND, 92 GND, 94 GND, 99 GND, 100 GND, 101 GND, 102 GND, 112 GND, 114 GND, 125 GND, 134 GND, 147 GND, 164 GND, 168 GND, 199 GND, 200 GND, 201 GND, 202 GND, 226 GND, 233 GND, 263 GND, 265 GND, 275 TopBoard_DET0, 276 TopBoard_DET1, 277 GND, 278 VB, 279 GND, 280 VCC18, 281 GND, 282 VCC25, 283 GND, 284 VCCA, 285 GND, 286 VCC, 287 GND, 288 GND, 289 VDD, 290 VDD, 291 VDD, 292 VDD, 293 GND, 294 GND, 295 VCCDR, 296 VCCDR, 297 VCCDR, 298 VCCDR, 299 GND, 300 GND, 301 GND, 302 GND, 303 GND, 304 GND, 306 GND, 308 GND, 310 GND, 312 GND, 314 GND, 316 GND, 318 GND, 320 GND, 322 GND, 324 GND, 326 GND, 328 GND, 330 GND, 332 GND, 334 GND, 336 GND, 338 GND, 340 GND, 342 GND, 344 GND, 346 GND, 348 GND, 350 GND, 352 GND, 354 GND, 356 GND, 358 GND, 360 GND, 361 GND, 362 GND, 375 GND, 377 GND, 379 GND, 381 GND, 383 GND, 384 GND, 385 GND, 399 GND, 400 GND
part A text: LCDC Module; (LCDC_DISP); (LCDC_CS)
part B text: VIP  Module; (Flash_LED); (VIP_PWDN0); (VIP_PWDN1)
part C text: SRAM/EBC/HOST  Module
part D text: USB/Crystal/NPOR / Module
part E text: NAND FLASH/EMMC / Module; NAND FLASH; EMMC; (EMMC_RESET)
part F text: SDMMC  Module; (WIFI_RST)
part G text: RMII/MII/JTAG  Module; (RMII_PWR); (RMII_LINK); (RMII_INT); JTAG
part H text: HSADC  Module; (TV_PWR)
part I text: I2S/I2C/UART/SPI  Module; I2S0; SPDIF_TX; I2S1; I2C0; I2C1; I2C2; I2C3; UART0; UART1; UART2; UART3; SPI0; SPI1
part J text: GPIO/PWM/ADC  Module; (IR_INT); (POWER_ON); (COMP_INT); (PWR_KEY); (RTC_INT); (DC_DET); (CHG_OK); (BAT_LOW); (VOL+); (VOL-); (HOME); (ENT); (SEARCH); (FFD); (ESC); (FFW); (SENSOR_ON); (UP); (DOWN); (GPS_RST); (GPS_PWR); (MENU); (VCCEN_CON); (RECOER); (KEY_LED); (SPK_CTL); (GSENSOR_INT); (3G_DISABLE); (3G_RST); (SIM_DET); (3G_PWR)
part K text: POWER  Module

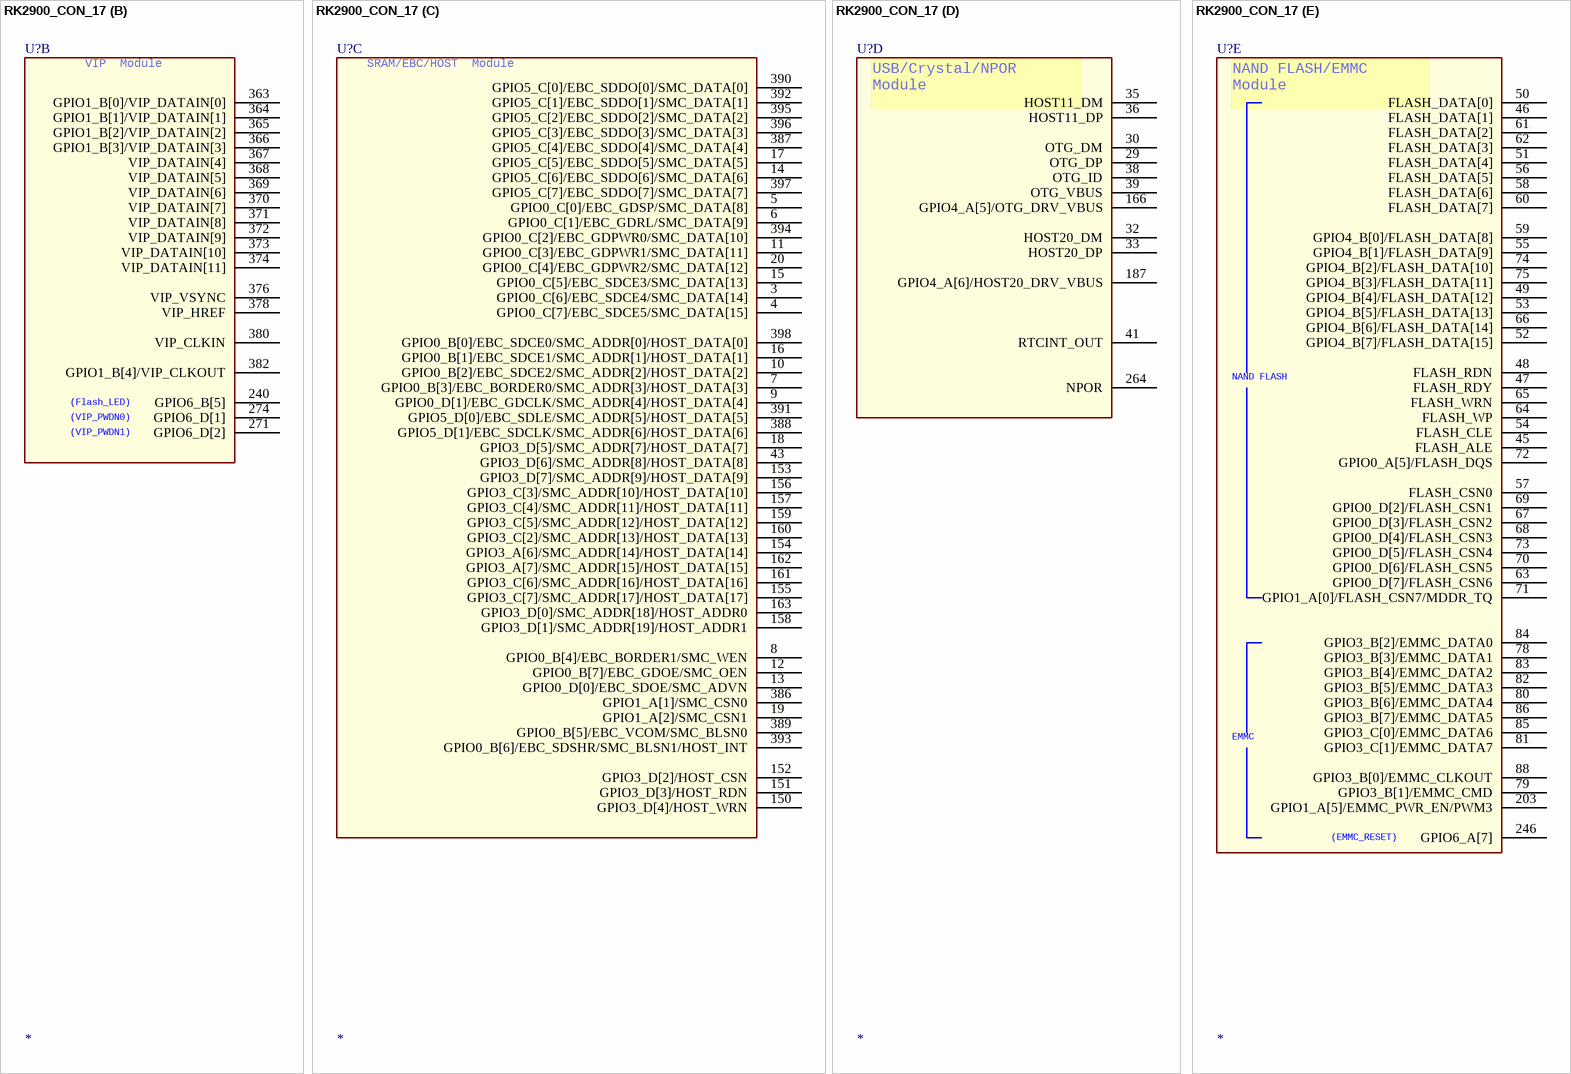
[diagram p99: symbol RK2900_CON_17]

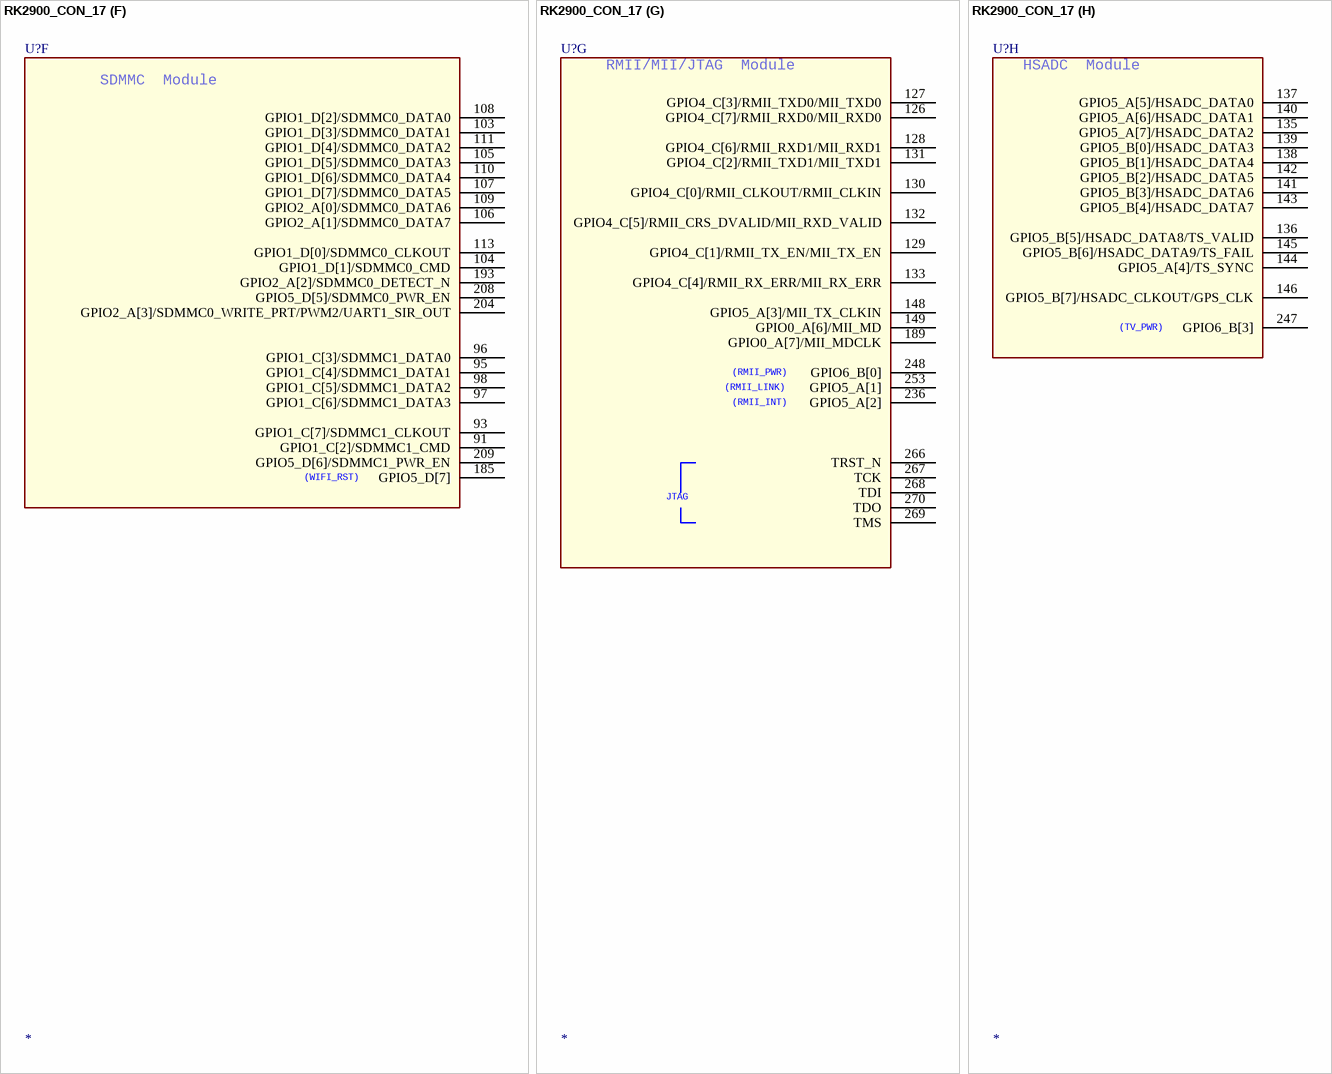
[diagram p100: symbol RK2900_CON_17]

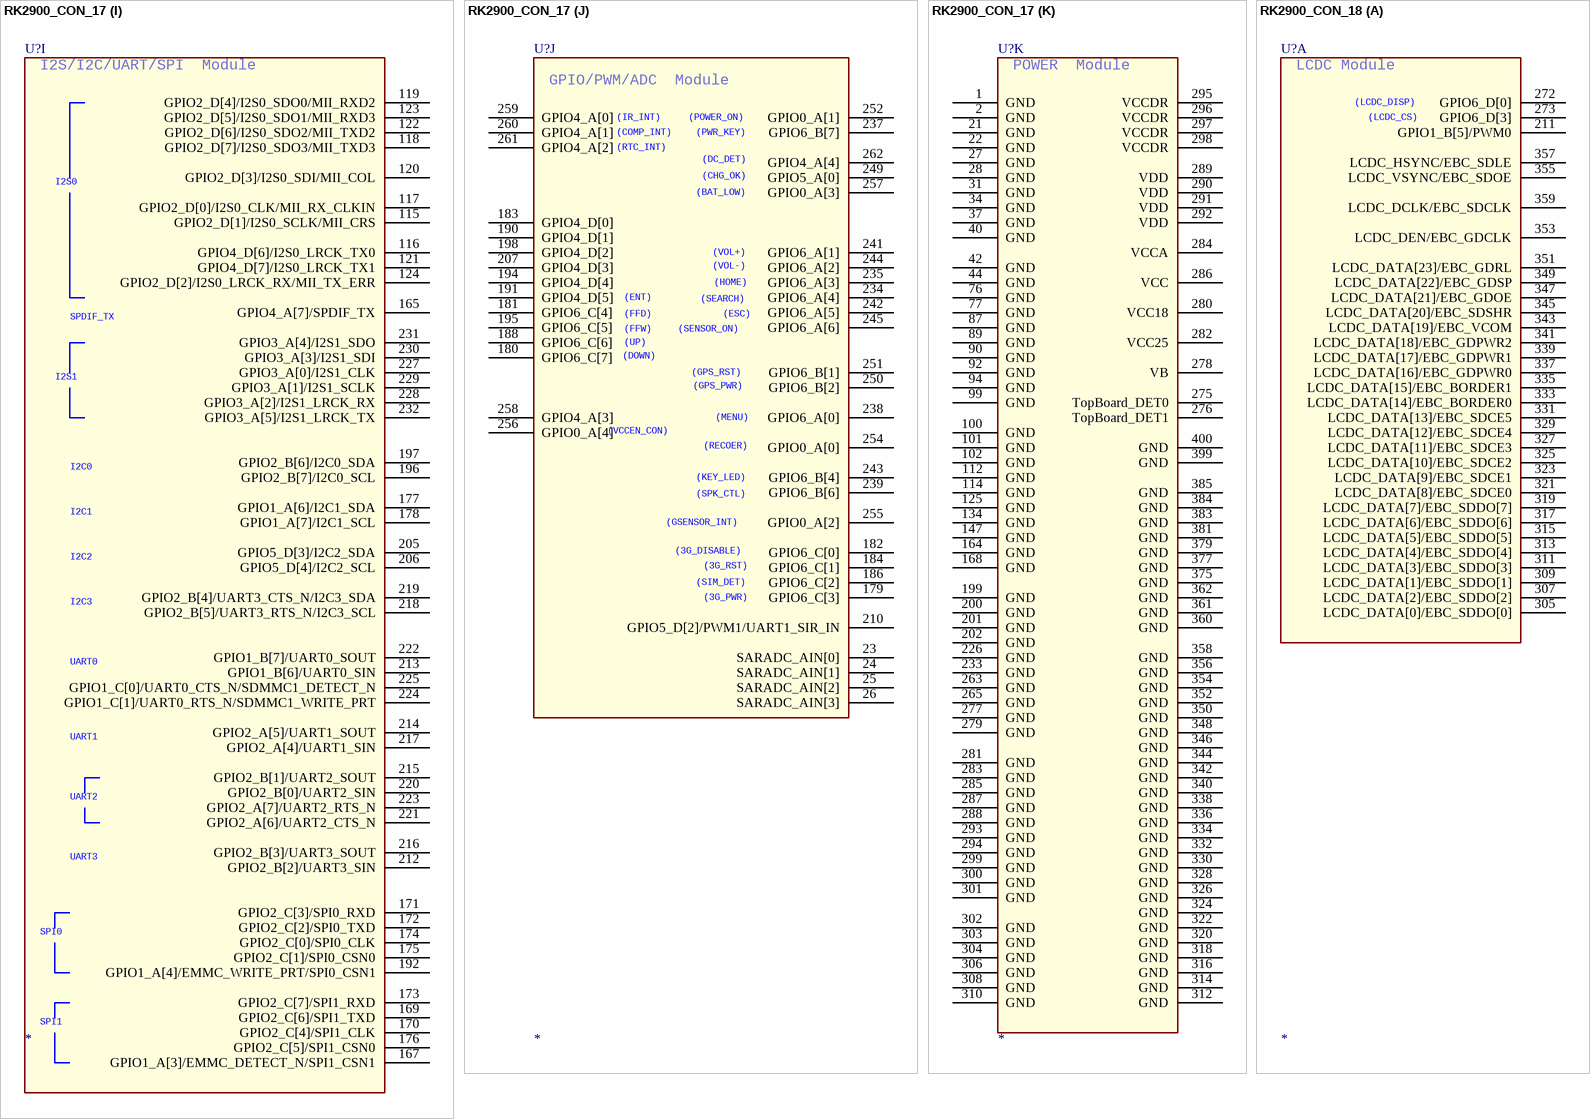
[diagram p101: symbols RK2900_CON_17 to RK2900_CON_18]

## RK2900_CON_17
designator U?
footprint RK2900_TOP
part A pins: 211 GPIO1_B[5]/PWM0, 272 GPIO6_D[0], 273 GPIO6_D[3], 305 LCDC_DATA[0]/EBC_SDDO[0], 307 LCDC_DATA[2]/EBC_SDDO[2], 309 LCDC_DATA[1]/EBC_SDDO[1], 311 LCDC_DATA[3]/EBC_SDDO[3], 313 LCDC_DATA[4]/EBC_SDDO[4], 315 LCDC_DATA[5]/EBC_SDDO[5], 317 LCDC_DATA[6]/EBC_SDDO[6], 319 LCDC_DATA[7]/EBC_SDDO[7], 321 LCDC_DATA[8]/EBC_SDCE0, 323 LCDC_DATA[9]/EBC_SDCE1, 325 LCDC_DATA[10]/EBC_SDCE2, 327 LCDC_DATA[11]/EBC_SDCE3, 329 LCDC_DATA[12]/EBC_SDCE4, 331 LCDC_DATA[13]/EBC_SDCE5, 333 LCDC_DATA[14]/EBC_BORDER0, 335 LCDC_DATA[15]/EBC_BORDER1, 337 LCDC_DATA[16]/EBC_GDPWR0, 339 LCDC_DATA[17]/EBC_GDPWR1, 341 LCDC_DATA[18]/EBC_GDPWR2, 343 LCDC_DATA[19]/EBC_VCOM, 345 LCDC_DATA[20]/EBC_SDSHR, 347 LCDC_DATA[21]/EBC_GDOE, 349 LCDC_DATA[22]/EBC_GDSP, 351 LCDC_DATA[23]/EBC_GDRL, 353 LCDC_DEN/EBC_GDCLK, 355 LCDC_VSYNC/EBC_SDOE, 357 LCDC_HSYNC/EBC_SDLE, 359 LCDC_DCLK/EBC_SDCLK
part B pins: 240 GPIO6_B[5], 271 GPIO6_D[2], 274 GPIO6_D[1], 363 GPIO1_B[0]/VIP_DATAIN[0], 364 GPIO1_B[1]/VIP_DATAIN[1], 365 GPIO1_B[2]/VIP_DATAIN[2], 366 GPIO1_B[3]/VIP_DATAIN[3], 367 VIP_DATAIN[4], 368 VIP_DATAIN[5], 369 VIP_DATAIN[6], 370 VIP_DATAIN[7], 371 VIP_DATAIN[8], 372 VIP_DATAIN[9], 373 VIP_DATAIN[10], 374 VIP_DATAIN[11], 376 VIP_VSYNC, 378 VIP_HREF, 380 VIP_CLKIN, 382 GPIO1_B[4]/VIP_CLKOUT
part C pins: 3 GPIO0_C[6]/EBC_SDCE4/SMC_DATA[14], 4 GPIO0_C[7]/EBC_SDCE5/SMC_DATA[15], 5 GPIO0_C[0]/EBC_GDSP/SMC_DATA[8], 6 GPIO0_C[1]/EBC_GDRL/SMC_DATA[9], 7 GPIO0_B[3]/EBC_BORDER0/SMC_ADDR[3]/HOST_DATA[3], 8 GPIO0_B[4]/EBC_BORDER1/SMC_WEN, 9 GPIO0_D[1]/EBC_GDCLK/SMC_ADDR[4]/HOST_DATA[4], 10 GPIO0_B[2]/EBC_SDCE2/SMC_ADDR[2]/HOST_DATA[2], 11 GPIO0_C[3]/EBC_GDPWR1/SMC_DATA[11], 12 GPIO0_B[7]/EBC_GDOE/SMC_OEN, 13 GPIO0_D[0]/EBC_SDOE/SMC_ADVN, 14 GPIO5_C[6]/EBC_SDDO[6]/SMC_DATA[6], 15 GPIO0_C[5]/EBC_SDCE3/SMC_DATA[13], 16 GPIO0_B[1]/EBC_SDCE1/SMC_ADDR[1]/HOST_DATA[1], 17 GPIO5_C[5]/EBC_SDDO[5]/SMC_DATA[5], 18 GPIO3_D[5]/SMC_ADDR[7]/HOST_DATA[7], 19 GPIO1_A[2]/SMC_CSN1, 20 GPIO0_C[4]/EBC_GDPWR2/SMC_DATA[12], 43 GPIO3_D[6]/SMC_ADDR[8]/HOST_DATA[8], 150 GPIO3_D[4]/HOST_WRN, 151 GPIO3_D[3]/HOST_RDN, 152 GPIO3_D[2]/HOST_CSN, 153 GPIO3_D[7]/SMC_ADDR[9]/HOST_DATA[9], 154 GPIO3_A[6]/SMC_ADDR[14]/HOST_DATA[14], 155 GPIO3_C[7]/SMC_ADDR[17]/HOST_DATA[17], 156 GPIO3_C[3]/SMC_ADDR[10]/HOST_DATA[10], 157 GPIO3_C[4]/SMC_ADDR[11]/HOST_DATA[11], 158 GPIO3_D[1]/SMC_ADDR[19]/HOST_ADDR1, 159 GPIO3_C[5]/SMC_ADDR[12]/HOST_DATA[12], 160 GPIO3_C[2]/SMC_ADDR[13]/HOST_DATA[13], 161 GPIO3_C[6]/SMC_ADDR[16]/HOST_DATA[16], 162 GPIO3_A[7]/SMC_ADDR[15]/HOST_DATA[15], 163 GPIO3_D[0]/SMC_ADDR[18]/HOST_ADDR0, 386 GPIO1_A[1]/SMC_CSN0, 387 GPIO5_C[4]/EBC_SDDO[4]/SMC_DATA[4], 388 GPIO5_D[1]/EBC_SDCLK/SMC_ADDR[6]/HOST_DATA[6], 389 GPIO0_B[5]/EBC_VCOM/SMC_BLSN0, 390 GPIO5_C[0]/EBC_SDDO[0]/SMC_DATA[0], 391 GPIO5_D[0]/EBC_SDLE/SMC_ADDR[5]/HOST_DATA[5], 392 GPIO5_C[1]/EBC_SDDO[1]/SMC_DATA[1], 393 GPIO0_B[6]/EBC_SDSHR/SMC_BLSN1/HOST_INT, 394 GPIO0_C[2]/EBC_GDPWR0/SMC_DATA[10], 395 GPIO5_C[2]/EBC_SDDO[2]/SMC_DATA[2], 396 GPIO5_C[3]/EBC_SDDO[3]/SMC_DATA[3], 397 GPIO5_C[7]/EBC_SDDO[7]/SMC_DATA[7], 398 GPIO0_B[0]/EBC_SDCE0/SMC_ADDR[0]/HOST_DATA[0]
part D pins: 29 OTG_DP, 30 OTG_DM, 32 HOST20_DM, 33 HOST20_DP, 35 HOST11_DM, 36 HOST11_DP, 38 OTG_ID, 39 OTG_VBUS, 41 RTCINT_OUT, 166 GPIO4_A[5]/OTG_DRV_VBUS, 187 GPIO4_A[6]/HOST20_DRV_VBUS, 264 NPOR
part E pins: 45 FLASH_ALE, 46 FLASH_DATA[1], 47 FLASH_RDY, 48 FLASH_RDN, 49 GPIO4_B[4]/FLASH_DATA[12], 50 FLASH_DATA[0], 51 FLASH_DATA[4], 52 GPIO4_B[7]/FLASH_DATA[15], 53 GPIO4_B[5]/FLASH_DATA[13], 54 FLASH_CLE, 55 GPIO4_B[1]/FLASH_DATA[9], 56 FLASH_DATA[5], 57 FLASH_CSN0, 58 FLASH_DATA[6], 59 GPIO4_B[0]/FLASH_DATA[8], 60 FLASH_DATA[7], 61 FLASH_DATA[2], 62 FLASH_DATA[3], 63 GPIO0_D[7]/FLASH_CSN6, 64 FLASH_WP, 65 FLASH_WRN, 66 GPIO4_B[6]/FLASH_DATA[14], 67 GPIO0_D[3]/FLASH_CSN2, 68 GPIO0_D[4]/FLASH_CSN3, 69 GPIO0_D[2]/FLASH_CSN1, 70 GPIO0_D[6]/FLASH_CSN5, 71 GPIO1_A[0]/FLASH_CSN7/MDDR_TQ, 72 GPIO0_A[5]/FLASH_DQS, 73 GPIO0_D[5]/FLASH_CSN4, 74 GPIO4_B[2]/FLASH_DATA[10], 75 GPIO4_B[3]/FLASH_DATA[11], 78 GPIO3_B[3]/EMMC_DATA1, 79 GPIO3_B[1]/EMMC_CMD, 80 GPIO3_B[6]/EMMC_DATA4, 81 GPIO3_C[1]/EMMC_DATA7, 82 GPIO3_B[5]/EMMC_DATA3, 83 GPIO3_B[4]/EMMC_DATA2, 84 GPIO3_B[2]/EMMC_DATA0, 85 GPIO3_C[0]/EMMC_DATA6, 86 GPIO3_B[7]/EMMC_DATA5, 88 GPIO3_B[0]/EMMC_CLKOUT, 203 GPIO1_A[5]/EMMC_PWR_EN/PWM3, 246 GPIO6_A[7]
part F pins: 91 GPIO1_C[2]/SDMMC1_CMD, 93 GPIO1_C[7]/SDMMC1_CLKOUT, 95 GPIO1_C[4]/SDMMC1_DATA1, 96 GPIO1_C[3]/SDMMC1_DATA0, 97 GPIO1_C[6]/SDMMC1_DATA3, 98 GPIO1_C[5]/SDMMC1_DATA2, 103 GPIO1_D[3]/SDMMC0_DATA1, 104 GPIO1_D[1]/SDMMC0_CMD, 105 GPIO1_D[5]/SDMMC0_DATA3, 106 GPIO2_A[1]/SDMMC0_DATA7, 107 GPIO1_D[7]/SDMMC0_DATA5, 108 GPIO1_D[2]/SDMMC0_DATA0, 109 GPIO2_A[0]/SDMMC0_DATA6, 110 GPIO1_D[6]/SDMMC0_DATA4, 111 GPIO1_D[4]/SDMMC0_DATA2, 113 GPIO1_D[0]/SDMMC0_CLKOUT, 185 GPIO5_D[7], 193 GPIO2_A[2]/SDMMC0_DETECT_N, 204 GPIO2_A[3]/SDMMC0_WRITE_PRT/PWM2/UART1_SIR_OUT, 208 GPIO5_D[5]/SDMMC0_PWR_EN, 209 GPIO5_D[6]/SDMMC1_PWR_EN
part G pins: 126 GPIO4_C[7]/RMII_RXD0/MII_RXD0, 127 GPIO4_C[3]/RMII_TXD0/MII_TXD0, 128 GPIO4_C[6]/RMII_RXD1/MII_RXD1, 129 GPIO4_C[1]/RMII_TX_EN/MII_TX_EN, 130 GPIO4_C[0]/RMII_CLKOUT/RMII_CLKIN, 131 GPIO4_C[2]/RMII_TXD1/MII_TXD1, 132 GPIO4_C[5]/RMII_CRS_DVALID/MII_RXD_VALID, 133 GPIO4_C[4]/RMII_RX_ERR/MII_RX_ERR, 148 GPIO5_A[3]/MII_TX_CLKIN, 149 GPIO0_A[6]/MII_MD, 189 GPIO0_A[7]/MII_MDCLK, 236 GPIO5_A[2], 248 GPIO6_B[0], 253 GPIO5_A[1], 266 TRST_N, 267 TCK, 268 TDI, 269 TMS, 270 TDO
part H pins: 135 GPIO5_A[7]/HSADC_DATA2, 136 GPIO5_B[5]/HSADC_DATA8/TS_VALID, 137 GPIO5_A[5]/HSADC_DATA0, 138 GPIO5_B[1]/HSADC_DATA4, 139 GPIO5_B[0]/HSADC_DATA3, 140 GPIO5_A[6]/HSADC_DATA1, 141 GPIO5_B[3]/HSADC_DATA6, 142 GPIO5_B[2]/HSADC_DATA5, 143 GPIO5_B[4]/HSADC_DATA7, 144 GPIO5_A[4]/TS_SYNC, 145 GPIO5_B[6]/HSADC_DATA9/TS_FAIL, 146 GPIO5_B[7]/HSADC_CLKOUT/GPS_CLK, 247 GPIO6_B[3]
part I pins: 115 GPIO2_D[1]/I2S0_SCLK/MII_CRS, 116 GPIO4_D[6]/I2S0_LRCK_TX0, 117 GPIO2_D[0]/I2S0_CLK/MII_RX_CLKIN, 118 GPIO2_D[7]/I2S0_SDO3/MII_TXD3, 119 GPIO2_D[4]/I2S0_SDO0/MII_RXD2, 120 GPIO2_D[3]/I2S0_SDI/MII_COL, 121 GPIO4_D[7]/I2S0_LRCK_TX1, 122 GPIO2_D[6]/I2S0_SDO2/MII_TXD2, 123 GPIO2_D[5]/I2S0_SDO1/MII_RXD3, 124 GPIO2_D[2]/I2S0_LRCK_RX/MII_TX_ERR, 165 GPIO4_A[7]/SPDIF_TX, 167 GPIO1_A[3]/EMMC_DETECT_N/SPI1_CSN1, 169 GPIO2_C[6]/SPI1_TXD, 170 GPIO2_C[4]/SPI1_CLK, 171 GPIO2_C[3]/SPI0_RXD, 172 GPIO2_C[2]/SPI0_TXD, 173 GPIO2_C[7]/SPI1_RXD, 174 GPIO2_C[0]/SPI0_CLK, 175 GPIO2_C[1]/SPI0_CSN0, 176 GPIO2_C[5]/SPI1_CSN0, 177 GPIO1_A[6]/I2C1_SDA, 178 GPIO1_A[7]/I2C1_SCL, 192 GPIO1_A[4]/EMMC_WRITE_PRT/SPI0_CSN1, 196 GPIO2_B[7]/I2C0_SCL, 197 GPIO2_B[6]/I2C0_SDA, 205 GPIO5_D[3]/I2C2_SDA, 206 GPIO5_D[4]/I2C2_SCL, 212 GPIO2_B[2]/UART3_SIN, 213 GPIO1_B[6]/UART0_SIN, 214 GPIO2_A[5]/UART1_SOUT, 215 GPIO2_B[1]/UART2_SOUT, 216 GPIO2_B[3]/UART3_SOUT, 217 GPIO2_A[4]/UART1_SIN, 218 GPIO2_B[5]/UART3_RTS_N/I2C3_SCL, 219 GPIO2_B[4]/UART3_CTS_N/I2C3_SDA, 220 GPIO2_B[0]/UART2_SIN, 221 GPIO2_A[6]/UART2_CTS_N, 222 GPIO1_B[7]/UART0_SOUT, 223 GPIO2_A[7]/UART2_RTS_N, 224 GPIO1_C[1]/UART0_RTS_N/SDMMC1_WRITE_PRT, 225 GPIO1_C[0]/UART0_CTS_N/SDMMC1_DETECT_N, 227 GPIO3_A[0]/I2S1_CLK, 228 GPIO3_A[2]/I2S1_LRCK_RX, 229 GPIO3_A[1]/I2S1_SCLK, 230 GPIO3_A[3]/I2S1_SDI, 231 GPIO3_A[4]/I2S1_SDO, 232 GPIO3_A[5]/I2S1_LRCK_TX
part J pins: 23 SARADC_AIN[0], 24 SARADC_AIN[1], 25 SARADC_AIN[2], 26 SARADC_AIN[3], 179 GPIO6_C[3], 180 GPIO6_C[7], 181 GPIO6_C[4], 182 GPIO6_C[0], 183 GPIO4_D[0], 184 GPIO6_C[1], 186 GPIO6_C[2], 188 GPIO6_C[6], 190 GPIO4_D[1], 191 GPIO4_D[5], 194 GPIO4_D[4], 195 GPIO6_C[5], 198 GPIO4_D[2], 207 GPIO4_D[3], 210 GPIO5_D[2]/PWM1/UART1_SIR_IN, 234 GPIO6_A[4], 235 GPIO6_A[3], 237 GPIO6_B[7], 238 GPIO6_A[0], 239 GPIO6_B[6], 241 GPIO6_A[1], 242 GPIO6_A[5], 243 GPIO6_B[4], 244 GPIO6_A[2], 245 GPIO6_A[6], 249 GPIO5_A[0], 250 GPIO6_B[2], 251 GPIO6_B[1], 252 GPIO0_A[1], 254 GPIO0_A[0], 255 GPIO0_A[2], 256 GPIO0_A[4], 257 GPIO0_A[3], 258 GPIO4_A[3], 259 GPIO4_A[0], 260 GPIO4_A[1], 261 GPIO4_A[2], 262 GPIO4_A[4]
part K pins: 1 GND, 2 GND, 21 GND, 22 GND, 27 GND, 28 GND, 31 GND, 34 GND, 37 GND, 40 GND, 42 GND, 44 GND, 76 GND, 77 GND, 87 GND, 89 GND, 90 GND, 92 GND, 94 GND, 99 GND, 100 GND, 101 GND, 102 GND, 112 GND, 114 GND, 125 GND, 134 GND, 147 GND, 164 GND, 168 GND, 199 GND, 200 GND, 201 GND, 202 GND, 226 GND, 233 GND, 263 GND, 265 GND, 275 TopBoard_DET0, 276 TopBoard_DET1, 277 GND, 278 VB, 279 GND, 280 VCC18, 281 GND, 282 VCC25, 283 GND, 284 VCCA, 285 GND, 286 VCC, 287 GND, 288 GND, 289 VDD, 290 VDD, 291 VDD, 292 VDD, 293 GND, 294 GND, 295 VCCDR, 296 VCCDR, 297 VCCDR, 298 VCCDR, 299 GND, 300 GND, 301 GND, 302 GND, 303 GND, 304 GND, 306 GND, 308 GND, 310 GND, 312 GND, 314 GND, 316 GND, 318 GND, 320 GND, 322 GND, 324 GND, 326 GND, 328 GND, 330 GND, 332 GND, 334 GND, 336 GND, 338 GND, 340 GND, 342 GND, 344 GND, 346 GND, 348 GND, 350 GND, 352 GND, 354 GND, 356 GND, 358 GND, 360 GND, 361 GND, 362 GND, 375 GND, 377 GND, 379 GND, 381 GND, 383 GND, 384 GND, 385 GND, 399 GND, 400 GND
part A text: LCDC Module; (LCDC_DISP); (LCDC_CS)
part B text: VIP  Module; (Flash_LED); (VIP_PWDN0); (VIP_PWDN1)
part C text: SRAM/EBC/HOST  Module
part D text: USB/Crystal/NPOR / Module
part E text: NAND FLASH/EMMC / Module; NAND FLASH; EMMC; (EMMC_RESET)
part F text: SDMMC  Module; (WIFI_RST)
part G text: RMII/MII/JTAG  Module; (RMII_PWR); (RMII_LINK); (RMII_INT); JTAG
part H text: HSADC  Module; (TV_PWR)
part I text: I2S/I2C/UART/SPI  Module; I2S0; SPDIF_TX; I2S1; I2C0; I2C1; I2C2; I2C3; UART0; UART1; UART2; UART3; SPI0; SPI1
part J text: GPIO/PWM/ADC  Module; (IR_INT); (POWER_ON); (COMP_INT); (PWR_KEY); (RTC_INT); (DC_DET); (CHG_OK); (BAT_LOW); (VOL+); (VOL-); (HOME); (ENT); (SEARCH); (FFD); (ESC); (FFW); (SENSOR_ON); (UP); (DOWN); (GPS_RST); (GPS_PWR); (MENU); (VCCEN_CON); (RECOER); (KEY_LED); (SPK_CTL); (GSENSOR_INT); (3G_DISABLE); (3G_RST); (SIM_DET); (3G_PWR)
part K text: POWER  Module

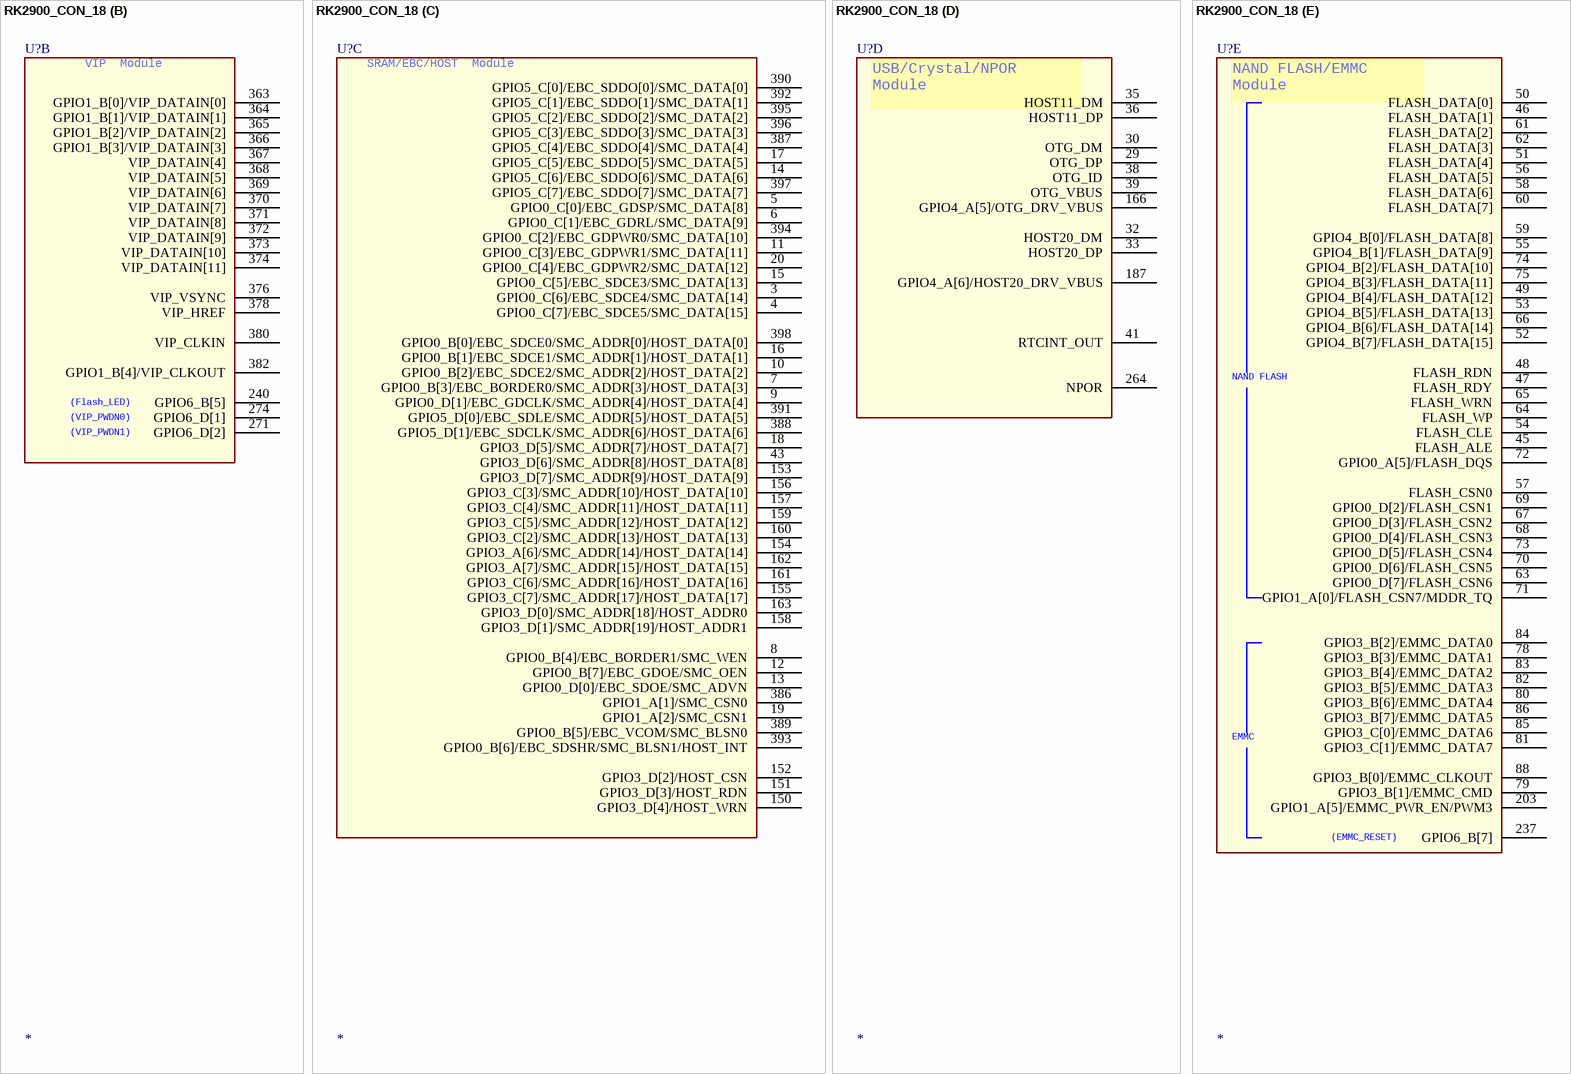
[diagram p102: symbol RK2900_CON_18]

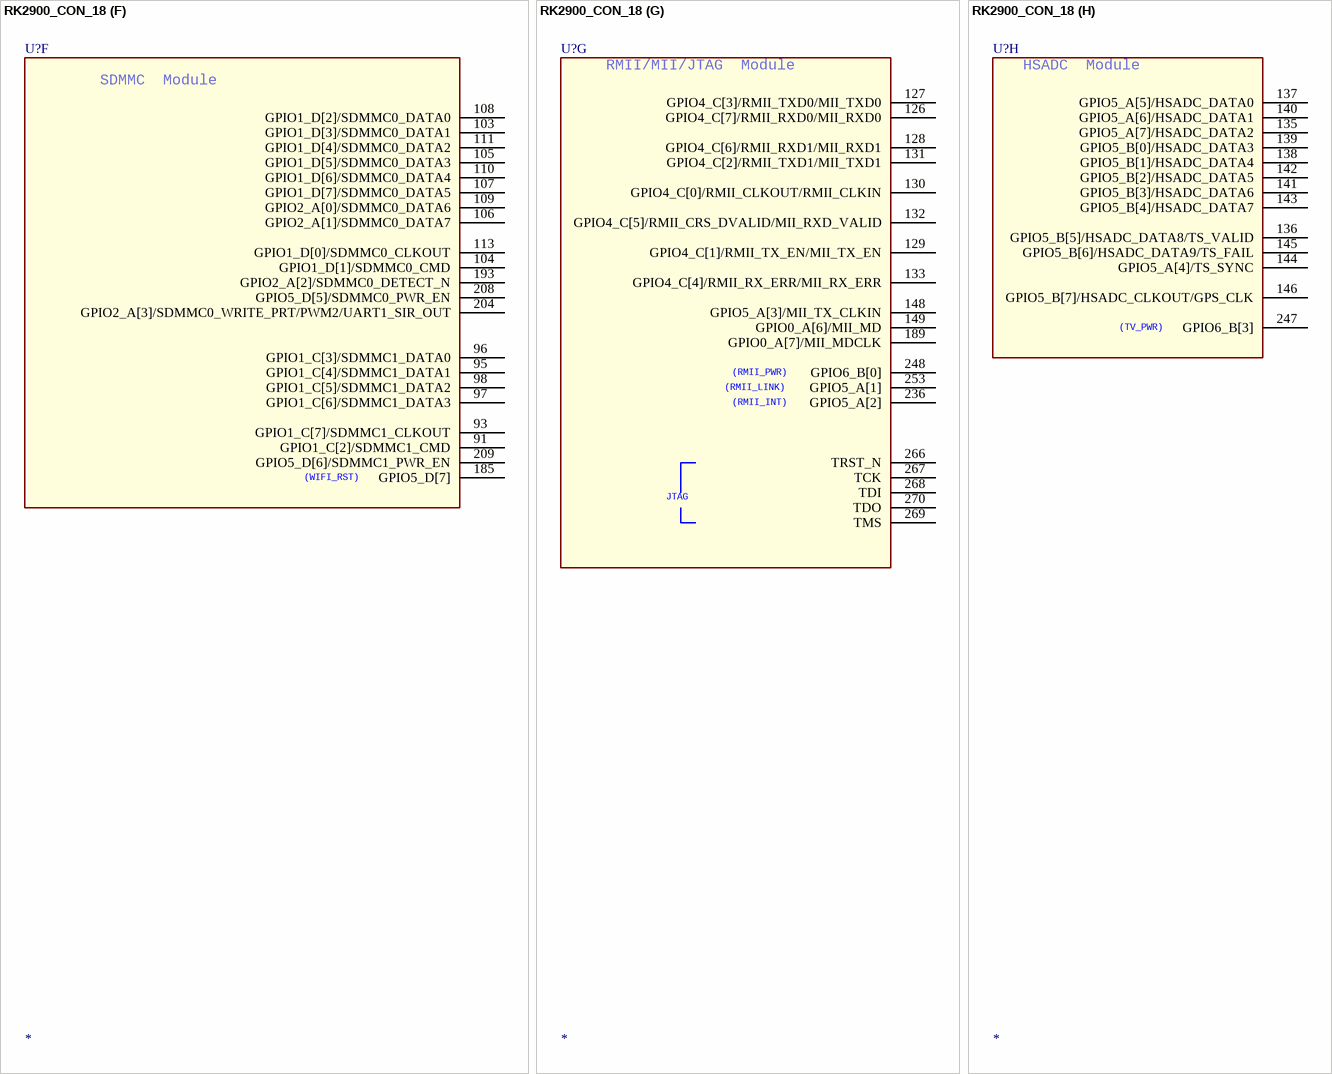
[diagram p103: symbol RK2900_CON_18]

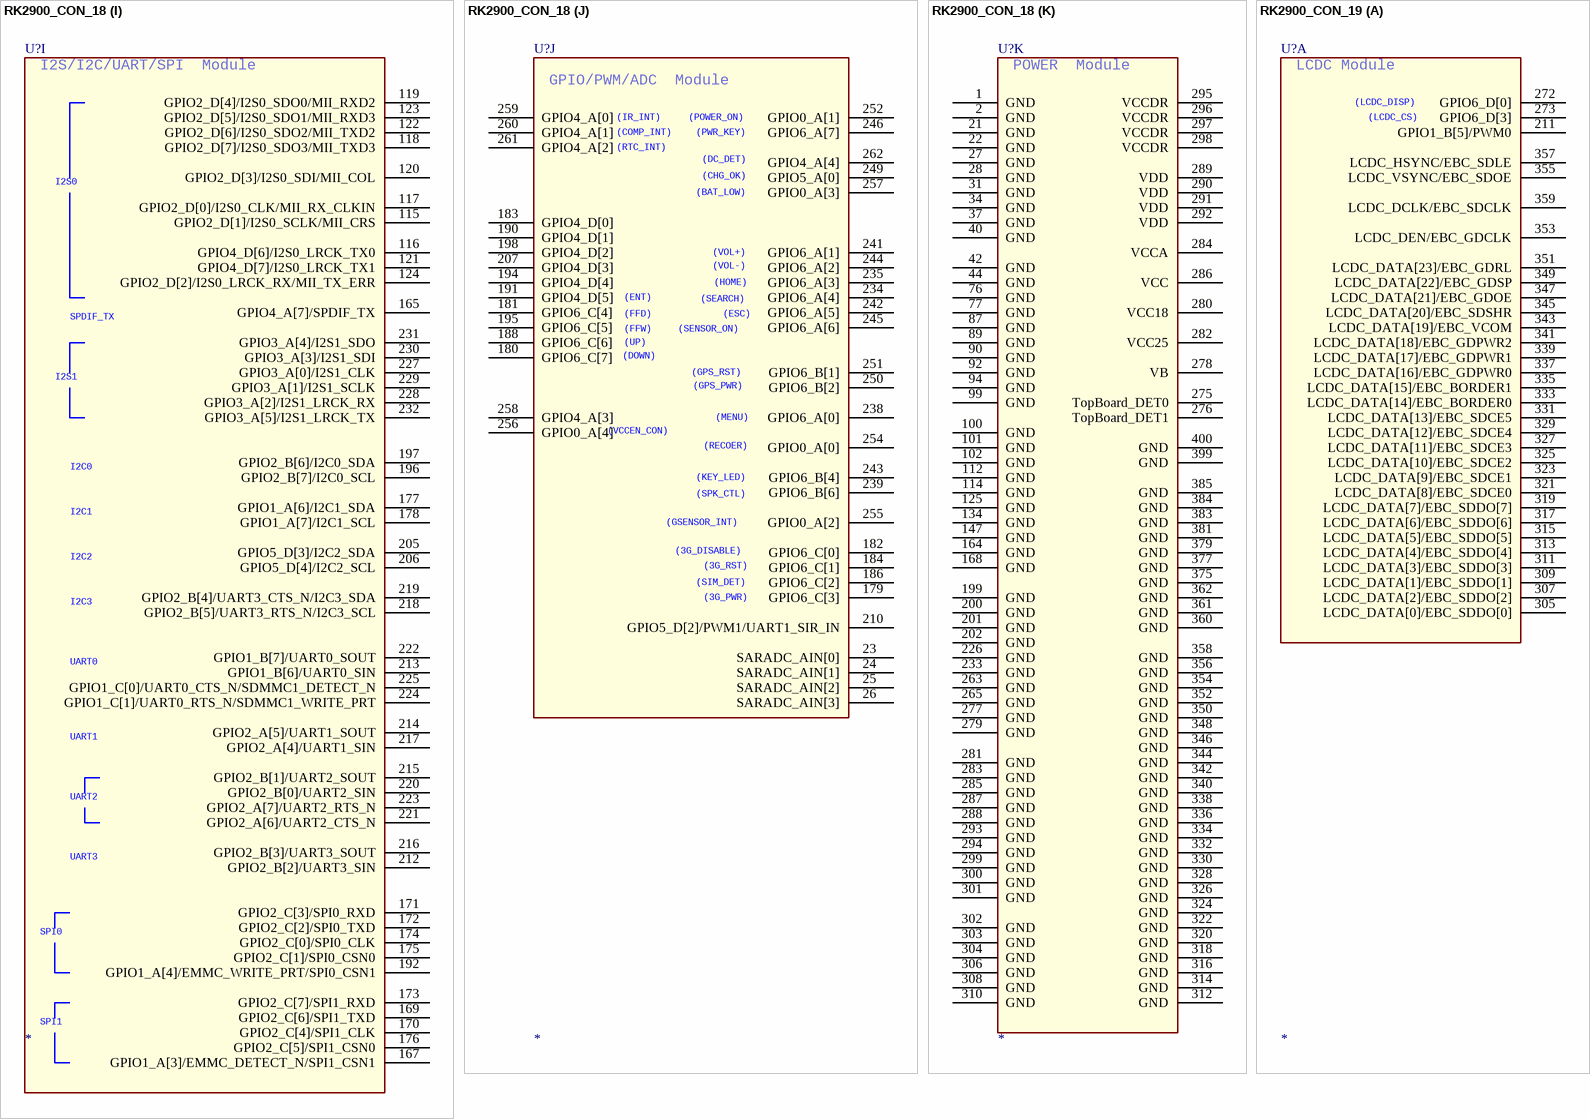
[diagram p104: symbols RK2900_CON_18 to RK2900_CON_19]

## RK2900_CON_18
designator U?
footprint RK2900_TOP
part A pins: 211 GPIO1_B[5]/PWM0, 272 GPIO6_D[0], 273 GPIO6_D[3], 305 LCDC_DATA[0]/EBC_SDDO[0], 307 LCDC_DATA[2]/EBC_SDDO[2], 309 LCDC_DATA[1]/EBC_SDDO[1], 311 LCDC_DATA[3]/EBC_SDDO[3], 313 LCDC_DATA[4]/EBC_SDDO[4], 315 LCDC_DATA[5]/EBC_SDDO[5], 317 LCDC_DATA[6]/EBC_SDDO[6], 319 LCDC_DATA[7]/EBC_SDDO[7], 321 LCDC_DATA[8]/EBC_SDCE0, 323 LCDC_DATA[9]/EBC_SDCE1, 325 LCDC_DATA[10]/EBC_SDCE2, 327 LCDC_DATA[11]/EBC_SDCE3, 329 LCDC_DATA[12]/EBC_SDCE4, 331 LCDC_DATA[13]/EBC_SDCE5, 333 LCDC_DATA[14]/EBC_BORDER0, 335 LCDC_DATA[15]/EBC_BORDER1, 337 LCDC_DATA[16]/EBC_GDPWR0, 339 LCDC_DATA[17]/EBC_GDPWR1, 341 LCDC_DATA[18]/EBC_GDPWR2, 343 LCDC_DATA[19]/EBC_VCOM, 345 LCDC_DATA[20]/EBC_SDSHR, 347 LCDC_DATA[21]/EBC_GDOE, 349 LCDC_DATA[22]/EBC_GDSP, 351 LCDC_DATA[23]/EBC_GDRL, 353 LCDC_DEN/EBC_GDCLK, 355 LCDC_VSYNC/EBC_SDOE, 357 LCDC_HSYNC/EBC_SDLE, 359 LCDC_DCLK/EBC_SDCLK
part B pins: 240 GPIO6_B[5], 271 GPIO6_D[2], 274 GPIO6_D[1], 363 GPIO1_B[0]/VIP_DATAIN[0], 364 GPIO1_B[1]/VIP_DATAIN[1], 365 GPIO1_B[2]/VIP_DATAIN[2], 366 GPIO1_B[3]/VIP_DATAIN[3], 367 VIP_DATAIN[4], 368 VIP_DATAIN[5], 369 VIP_DATAIN[6], 370 VIP_DATAIN[7], 371 VIP_DATAIN[8], 372 VIP_DATAIN[9], 373 VIP_DATAIN[10], 374 VIP_DATAIN[11], 376 VIP_VSYNC, 378 VIP_HREF, 380 VIP_CLKIN, 382 GPIO1_B[4]/VIP_CLKOUT
part C pins: 3 GPIO0_C[6]/EBC_SDCE4/SMC_DATA[14], 4 GPIO0_C[7]/EBC_SDCE5/SMC_DATA[15], 5 GPIO0_C[0]/EBC_GDSP/SMC_DATA[8], 6 GPIO0_C[1]/EBC_GDRL/SMC_DATA[9], 7 GPIO0_B[3]/EBC_BORDER0/SMC_ADDR[3]/HOST_DATA[3], 8 GPIO0_B[4]/EBC_BORDER1/SMC_WEN, 9 GPIO0_D[1]/EBC_GDCLK/SMC_ADDR[4]/HOST_DATA[4], 10 GPIO0_B[2]/EBC_SDCE2/SMC_ADDR[2]/HOST_DATA[2], 11 GPIO0_C[3]/EBC_GDPWR1/SMC_DATA[11], 12 GPIO0_B[7]/EBC_GDOE/SMC_OEN, 13 GPIO0_D[0]/EBC_SDOE/SMC_ADVN, 14 GPIO5_C[6]/EBC_SDDO[6]/SMC_DATA[6], 15 GPIO0_C[5]/EBC_SDCE3/SMC_DATA[13], 16 GPIO0_B[1]/EBC_SDCE1/SMC_ADDR[1]/HOST_DATA[1], 17 GPIO5_C[5]/EBC_SDDO[5]/SMC_DATA[5], 18 GPIO3_D[5]/SMC_ADDR[7]/HOST_DATA[7], 19 GPIO1_A[2]/SMC_CSN1, 20 GPIO0_C[4]/EBC_GDPWR2/SMC_DATA[12], 43 GPIO3_D[6]/SMC_ADDR[8]/HOST_DATA[8], 150 GPIO3_D[4]/HOST_WRN, 151 GPIO3_D[3]/HOST_RDN, 152 GPIO3_D[2]/HOST_CSN, 153 GPIO3_D[7]/SMC_ADDR[9]/HOST_DATA[9], 154 GPIO3_A[6]/SMC_ADDR[14]/HOST_DATA[14], 155 GPIO3_C[7]/SMC_ADDR[17]/HOST_DATA[17], 156 GPIO3_C[3]/SMC_ADDR[10]/HOST_DATA[10], 157 GPIO3_C[4]/SMC_ADDR[11]/HOST_DATA[11], 158 GPIO3_D[1]/SMC_ADDR[19]/HOST_ADDR1, 159 GPIO3_C[5]/SMC_ADDR[12]/HOST_DATA[12], 160 GPIO3_C[2]/SMC_ADDR[13]/HOST_DATA[13], 161 GPIO3_C[6]/SMC_ADDR[16]/HOST_DATA[16], 162 GPIO3_A[7]/SMC_ADDR[15]/HOST_DATA[15], 163 GPIO3_D[0]/SMC_ADDR[18]/HOST_ADDR0, 386 GPIO1_A[1]/SMC_CSN0, 387 GPIO5_C[4]/EBC_SDDO[4]/SMC_DATA[4], 388 GPIO5_D[1]/EBC_SDCLK/SMC_ADDR[6]/HOST_DATA[6], 389 GPIO0_B[5]/EBC_VCOM/SMC_BLSN0, 390 GPIO5_C[0]/EBC_SDDO[0]/SMC_DATA[0], 391 GPIO5_D[0]/EBC_SDLE/SMC_ADDR[5]/HOST_DATA[5], 392 GPIO5_C[1]/EBC_SDDO[1]/SMC_DATA[1], 393 GPIO0_B[6]/EBC_SDSHR/SMC_BLSN1/HOST_INT, 394 GPIO0_C[2]/EBC_GDPWR0/SMC_DATA[10], 395 GPIO5_C[2]/EBC_SDDO[2]/SMC_DATA[2], 396 GPIO5_C[3]/EBC_SDDO[3]/SMC_DATA[3], 397 GPIO5_C[7]/EBC_SDDO[7]/SMC_DATA[7], 398 GPIO0_B[0]/EBC_SDCE0/SMC_ADDR[0]/HOST_DATA[0]
part D pins: 29 OTG_DP, 30 OTG_DM, 32 HOST20_DM, 33 HOST20_DP, 35 HOST11_DM, 36 HOST11_DP, 38 OTG_ID, 39 OTG_VBUS, 41 RTCINT_OUT, 166 GPIO4_A[5]/OTG_DRV_VBUS, 187 GPIO4_A[6]/HOST20_DRV_VBUS, 264 NPOR
part E pins: 45 FLASH_ALE, 46 FLASH_DATA[1], 47 FLASH_RDY, 48 FLASH_RDN, 49 GPIO4_B[4]/FLASH_DATA[12], 50 FLASH_DATA[0], 51 FLASH_DATA[4], 52 GPIO4_B[7]/FLASH_DATA[15], 53 GPIO4_B[5]/FLASH_DATA[13], 54 FLASH_CLE, 55 GPIO4_B[1]/FLASH_DATA[9], 56 FLASH_DATA[5], 57 FLASH_CSN0, 58 FLASH_DATA[6], 59 GPIO4_B[0]/FLASH_DATA[8], 60 FLASH_DATA[7], 61 FLASH_DATA[2], 62 FLASH_DATA[3], 63 GPIO0_D[7]/FLASH_CSN6, 64 FLASH_WP, 65 FLASH_WRN, 66 GPIO4_B[6]/FLASH_DATA[14], 67 GPIO0_D[3]/FLASH_CSN2, 68 GPIO0_D[4]/FLASH_CSN3, 69 GPIO0_D[2]/FLASH_CSN1, 70 GPIO0_D[6]/FLASH_CSN5, 71 GPIO1_A[0]/FLASH_CSN7/MDDR_TQ, 72 GPIO0_A[5]/FLASH_DQS, 73 GPIO0_D[5]/FLASH_CSN4, 74 GPIO4_B[2]/FLASH_DATA[10], 75 GPIO4_B[3]/FLASH_DATA[11], 78 GPIO3_B[3]/EMMC_DATA1, 79 GPIO3_B[1]/EMMC_CMD, 80 GPIO3_B[6]/EMMC_DATA4, 81 GPIO3_C[1]/EMMC_DATA7, 82 GPIO3_B[5]/EMMC_DATA3, 83 GPIO3_B[4]/EMMC_DATA2, 84 GPIO3_B[2]/EMMC_DATA0, 85 GPIO3_C[0]/EMMC_DATA6, 86 GPIO3_B[7]/EMMC_DATA5, 88 GPIO3_B[0]/EMMC_CLKOUT, 203 GPIO1_A[5]/EMMC_PWR_EN/PWM3, 237 GPIO6_B[7]
part F pins: 91 GPIO1_C[2]/SDMMC1_CMD, 93 GPIO1_C[7]/SDMMC1_CLKOUT, 95 GPIO1_C[4]/SDMMC1_DATA1, 96 GPIO1_C[3]/SDMMC1_DATA0, 97 GPIO1_C[6]/SDMMC1_DATA3, 98 GPIO1_C[5]/SDMMC1_DATA2, 103 GPIO1_D[3]/SDMMC0_DATA1, 104 GPIO1_D[1]/SDMMC0_CMD, 105 GPIO1_D[5]/SDMMC0_DATA3, 106 GPIO2_A[1]/SDMMC0_DATA7, 107 GPIO1_D[7]/SDMMC0_DATA5, 108 GPIO1_D[2]/SDMMC0_DATA0, 109 GPIO2_A[0]/SDMMC0_DATA6, 110 GPIO1_D[6]/SDMMC0_DATA4, 111 GPIO1_D[4]/SDMMC0_DATA2, 113 GPIO1_D[0]/SDMMC0_CLKOUT, 185 GPIO5_D[7], 193 GPIO2_A[2]/SDMMC0_DETECT_N, 204 GPIO2_A[3]/SDMMC0_WRITE_PRT/PWM2/UART1_SIR_OUT, 208 GPIO5_D[5]/SDMMC0_PWR_EN, 209 GPIO5_D[6]/SDMMC1_PWR_EN
part G pins: 126 GPIO4_C[7]/RMII_RXD0/MII_RXD0, 127 GPIO4_C[3]/RMII_TXD0/MII_TXD0, 128 GPIO4_C[6]/RMII_RXD1/MII_RXD1, 129 GPIO4_C[1]/RMII_TX_EN/MII_TX_EN, 130 GPIO4_C[0]/RMII_CLKOUT/RMII_CLKIN, 131 GPIO4_C[2]/RMII_TXD1/MII_TXD1, 132 GPIO4_C[5]/RMII_CRS_DVALID/MII_RXD_VALID, 133 GPIO4_C[4]/RMII_RX_ERR/MII_RX_ERR, 148 GPIO5_A[3]/MII_TX_CLKIN, 149 GPIO0_A[6]/MII_MD, 189 GPIO0_A[7]/MII_MDCLK, 236 GPIO5_A[2], 248 GPIO6_B[0], 253 GPIO5_A[1], 266 TRST_N, 267 TCK, 268 TDI, 269 TMS, 270 TDO
part H pins: 135 GPIO5_A[7]/HSADC_DATA2, 136 GPIO5_B[5]/HSADC_DATA8/TS_VALID, 137 GPIO5_A[5]/HSADC_DATA0, 138 GPIO5_B[1]/HSADC_DATA4, 139 GPIO5_B[0]/HSADC_DATA3, 140 GPIO5_A[6]/HSADC_DATA1, 141 GPIO5_B[3]/HSADC_DATA6, 142 GPIO5_B[2]/HSADC_DATA5, 143 GPIO5_B[4]/HSADC_DATA7, 144 GPIO5_A[4]/TS_SYNC, 145 GPIO5_B[6]/HSADC_DATA9/TS_FAIL, 146 GPIO5_B[7]/HSADC_CLKOUT/GPS_CLK, 247 GPIO6_B[3]
part I pins: 115 GPIO2_D[1]/I2S0_SCLK/MII_CRS, 116 GPIO4_D[6]/I2S0_LRCK_TX0, 117 GPIO2_D[0]/I2S0_CLK/MII_RX_CLKIN, 118 GPIO2_D[7]/I2S0_SDO3/MII_TXD3, 119 GPIO2_D[4]/I2S0_SDO0/MII_RXD2, 120 GPIO2_D[3]/I2S0_SDI/MII_COL, 121 GPIO4_D[7]/I2S0_LRCK_TX1, 122 GPIO2_D[6]/I2S0_SDO2/MII_TXD2, 123 GPIO2_D[5]/I2S0_SDO1/MII_RXD3, 124 GPIO2_D[2]/I2S0_LRCK_RX/MII_TX_ERR, 165 GPIO4_A[7]/SPDIF_TX, 167 GPIO1_A[3]/EMMC_DETECT_N/SPI1_CSN1, 169 GPIO2_C[6]/SPI1_TXD, 170 GPIO2_C[4]/SPI1_CLK, 171 GPIO2_C[3]/SPI0_RXD, 172 GPIO2_C[2]/SPI0_TXD, 173 GPIO2_C[7]/SPI1_RXD, 174 GPIO2_C[0]/SPI0_CLK, 175 GPIO2_C[1]/SPI0_CSN0, 176 GPIO2_C[5]/SPI1_CSN0, 177 GPIO1_A[6]/I2C1_SDA, 178 GPIO1_A[7]/I2C1_SCL, 192 GPIO1_A[4]/EMMC_WRITE_PRT/SPI0_CSN1, 196 GPIO2_B[7]/I2C0_SCL, 197 GPIO2_B[6]/I2C0_SDA, 205 GPIO5_D[3]/I2C2_SDA, 206 GPIO5_D[4]/I2C2_SCL, 212 GPIO2_B[2]/UART3_SIN, 213 GPIO1_B[6]/UART0_SIN, 214 GPIO2_A[5]/UART1_SOUT, 215 GPIO2_B[1]/UART2_SOUT, 216 GPIO2_B[3]/UART3_SOUT, 217 GPIO2_A[4]/UART1_SIN, 218 GPIO2_B[5]/UART3_RTS_N/I2C3_SCL, 219 GPIO2_B[4]/UART3_CTS_N/I2C3_SDA, 220 GPIO2_B[0]/UART2_SIN, 221 GPIO2_A[6]/UART2_CTS_N, 222 GPIO1_B[7]/UART0_SOUT, 223 GPIO2_A[7]/UART2_RTS_N, 224 GPIO1_C[1]/UART0_RTS_N/SDMMC1_WRITE_PRT, 225 GPIO1_C[0]/UART0_CTS_N/SDMMC1_DETECT_N, 227 GPIO3_A[0]/I2S1_CLK, 228 GPIO3_A[2]/I2S1_LRCK_RX, 229 GPIO3_A[1]/I2S1_SCLK, 230 GPIO3_A[3]/I2S1_SDI, 231 GPIO3_A[4]/I2S1_SDO, 232 GPIO3_A[5]/I2S1_LRCK_TX
part J pins: 23 SARADC_AIN[0], 24 SARADC_AIN[1], 25 SARADC_AIN[2], 26 SARADC_AIN[3], 179 GPIO6_C[3], 180 GPIO6_C[7], 181 GPIO6_C[4], 182 GPIO6_C[0], 183 GPIO4_D[0], 184 GPIO6_C[1], 186 GPIO6_C[2], 188 GPIO6_C[6], 190 GPIO4_D[1], 191 GPIO4_D[5], 194 GPIO4_D[4], 195 GPIO6_C[5], 198 GPIO4_D[2], 207 GPIO4_D[3], 210 GPIO5_D[2]/PWM1/UART1_SIR_IN, 234 GPIO6_A[4], 235 GPIO6_A[3], 238 GPIO6_A[0], 239 GPIO6_B[6], 241 GPIO6_A[1], 242 GPIO6_A[5], 243 GPIO6_B[4], 244 GPIO6_A[2], 245 GPIO6_A[6], 246 GPIO6_A[7], 249 GPIO5_A[0], 250 GPIO6_B[2], 251 GPIO6_B[1], 252 GPIO0_A[1], 254 GPIO0_A[0], 255 GPIO0_A[2], 256 GPIO0_A[4], 257 GPIO0_A[3], 258 GPIO4_A[3], 259 GPIO4_A[0], 260 GPIO4_A[1], 261 GPIO4_A[2], 262 GPIO4_A[4]
part K pins: 1 GND, 2 GND, 21 GND, 22 GND, 27 GND, 28 GND, 31 GND, 34 GND, 37 GND, 40 GND, 42 GND, 44 GND, 76 GND, 77 GND, 87 GND, 89 GND, 90 GND, 92 GND, 94 GND, 99 GND, 100 GND, 101 GND, 102 GND, 112 GND, 114 GND, 125 GND, 134 GND, 147 GND, 164 GND, 168 GND, 199 GND, 200 GND, 201 GND, 202 GND, 226 GND, 233 GND, 263 GND, 265 GND, 275 TopBoard_DET0, 276 TopBoard_DET1, 277 GND, 278 VB, 279 GND, 280 VCC18, 281 GND, 282 VCC25, 283 GND, 284 VCCA, 285 GND, 286 VCC, 287 GND, 288 GND, 289 VDD, 290 VDD, 291 VDD, 292 VDD, 293 GND, 294 GND, 295 VCCDR, 296 VCCDR, 297 VCCDR, 298 VCCDR, 299 GND, 300 GND, 301 GND, 302 GND, 303 GND, 304 GND, 306 GND, 308 GND, 310 GND, 312 GND, 314 GND, 316 GND, 318 GND, 320 GND, 322 GND, 324 GND, 326 GND, 328 GND, 330 GND, 332 GND, 334 GND, 336 GND, 338 GND, 340 GND, 342 GND, 344 GND, 346 GND, 348 GND, 350 GND, 352 GND, 354 GND, 356 GND, 358 GND, 360 GND, 361 GND, 362 GND, 375 GND, 377 GND, 379 GND, 381 GND, 383 GND, 384 GND, 385 GND, 399 GND, 400 GND
part A text: LCDC Module; (LCDC_DISP); (LCDC_CS)
part B text: VIP  Module; (Flash_LED); (VIP_PWDN0); (VIP_PWDN1)
part C text: SRAM/EBC/HOST  Module
part D text: USB/Crystal/NPOR / Module
part E text: NAND FLASH/EMMC / Module; NAND FLASH; EMMC; (EMMC_RESET)
part F text: SDMMC  Module; (WIFI_RST)
part G text: RMII/MII/JTAG  Module; (RMII_PWR); (RMII_LINK); (RMII_INT); JTAG
part H text: HSADC  Module; (TV_PWR)
part I text: I2S/I2C/UART/SPI  Module; I2S0; SPDIF_TX; I2S1; I2C0; I2C1; I2C2; I2C3; UART0; UART1; UART2; UART3; SPI0; SPI1
part J text: GPIO/PWM/ADC  Module; (IR_INT); (POWER_ON); (COMP_INT); (PWR_KEY); (RTC_INT); (DC_DET); (CHG_OK); (BAT_LOW); (VOL+); (VOL-); (HOME); (ENT); (SEARCH); (FFD); (ESC); (FFW); (SENSOR_ON); (UP); (DOWN); (GPS_RST); (GPS_PWR); (MENU); (VCCEN_CON); (RECOER); (KEY_LED); (SPK_CTL); (GSENSOR_INT); (3G_DISABLE); (3G_RST); (SIM_DET); (3G_PWR)
part K text: POWER  Module

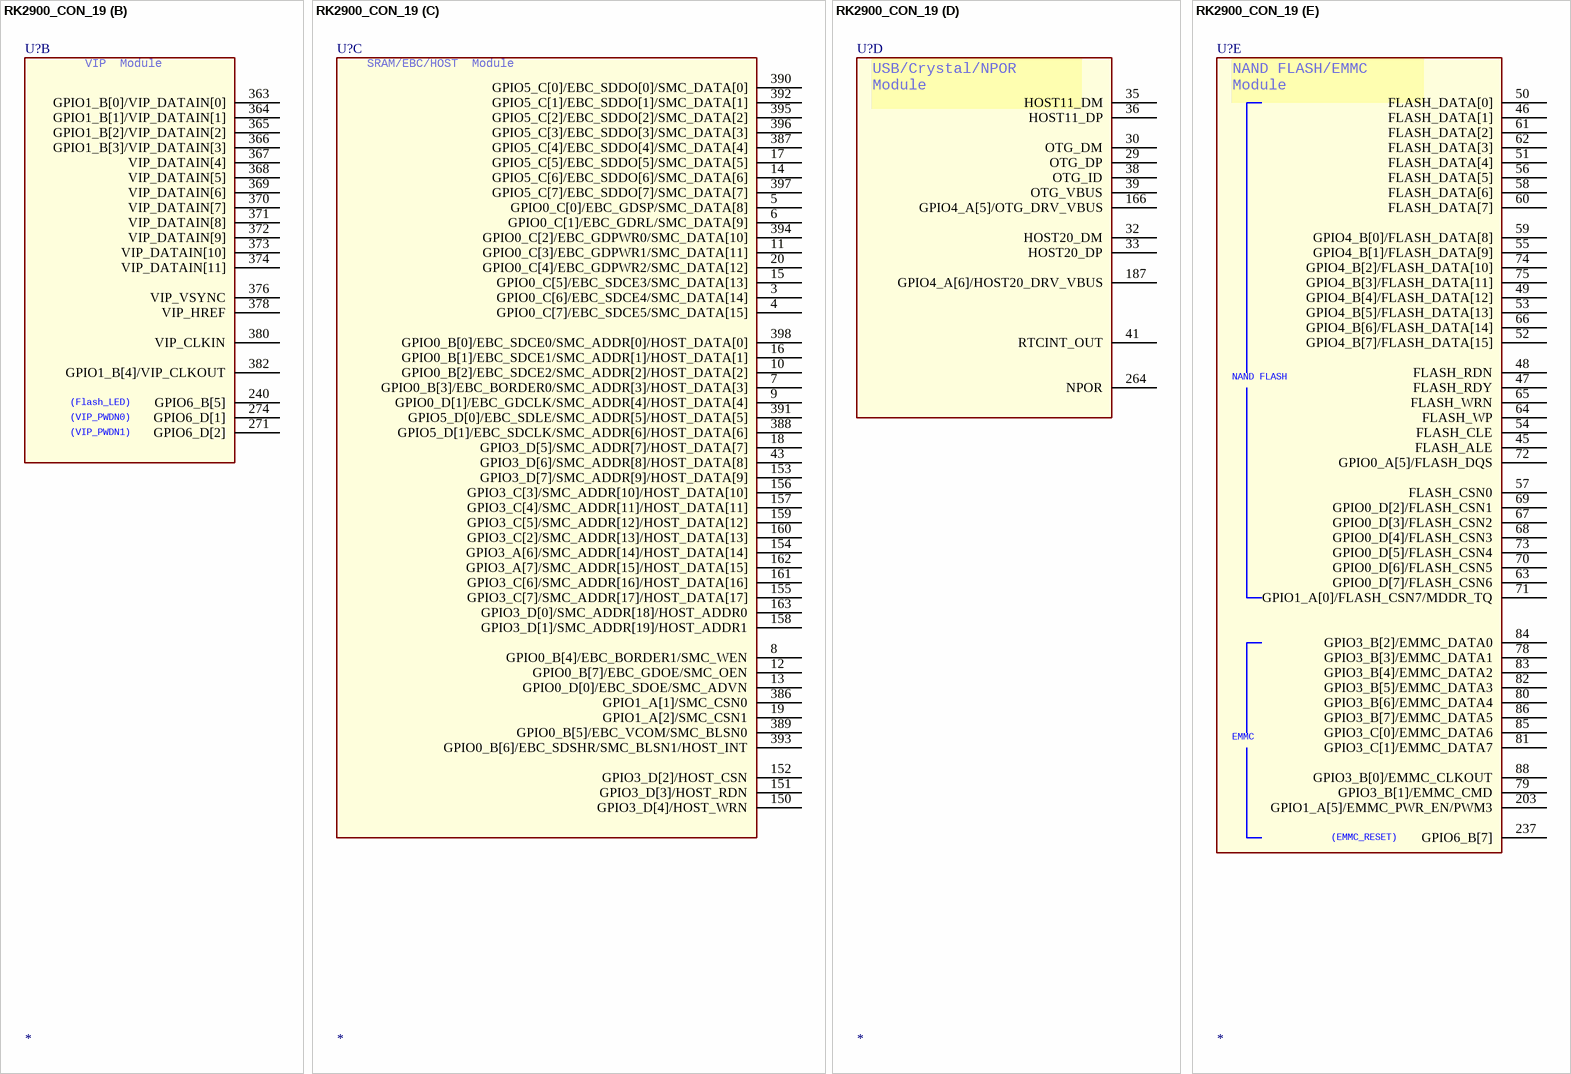
[diagram p105: symbol RK2900_CON_19]

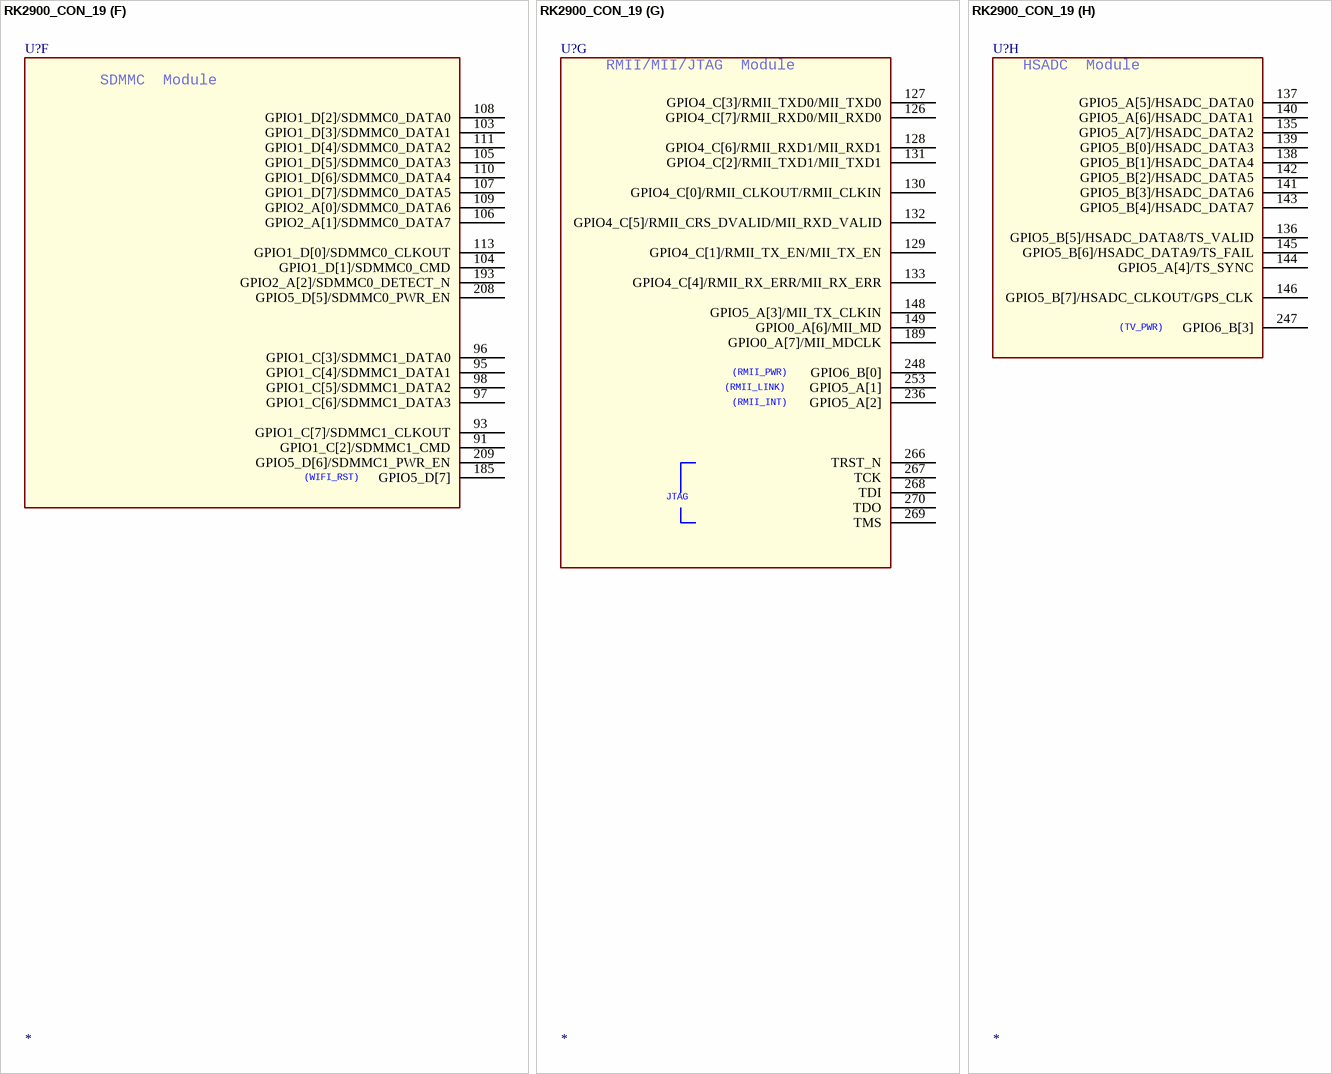
[diagram p106: symbol RK2900_CON_19]

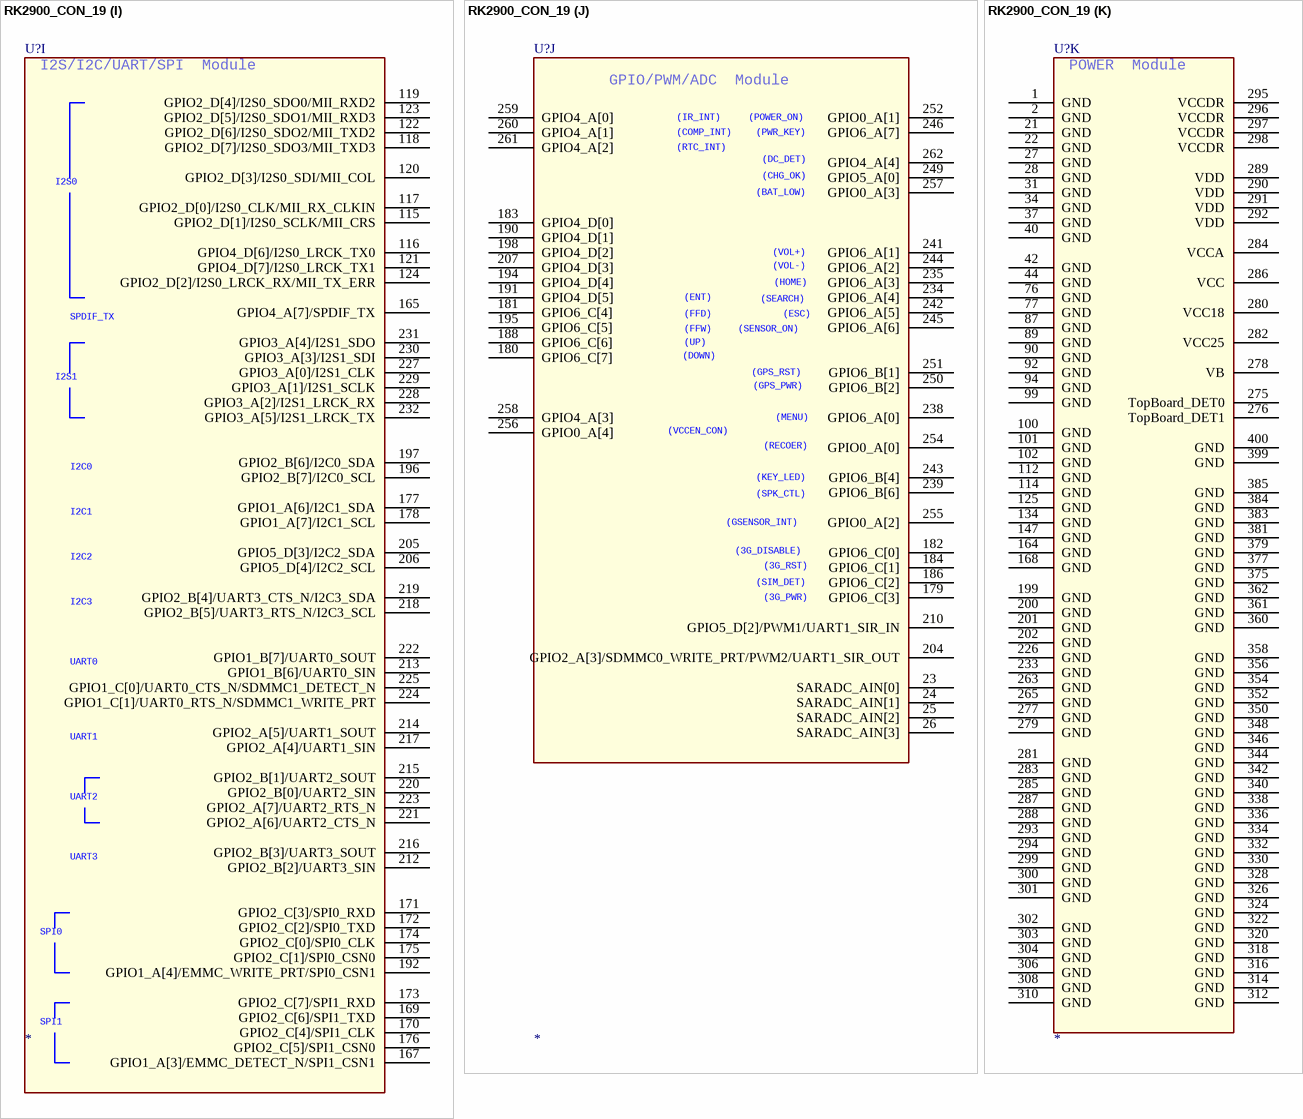
[diagram p107: symbol RK2900_CON_19]

## RK2900_CON_19
designator U?
footprint RK2900_TOP
part A pins: 211 GPIO1_B[5]/PWM0, 272 GPIO6_D[0], 273 GPIO6_D[3], 305 LCDC_DATA[0]/EBC_SDDO[0], 307 LCDC_DATA[2]/EBC_SDDO[2], 309 LCDC_DATA[1]/EBC_SDDO[1], 311 LCDC_DATA[3]/EBC_SDDO[3], 313 LCDC_DATA[4]/EBC_SDDO[4], 315 LCDC_DATA[5]/EBC_SDDO[5], 317 LCDC_DATA[6]/EBC_SDDO[6], 319 LCDC_DATA[7]/EBC_SDDO[7], 321 LCDC_DATA[8]/EBC_SDCE0, 323 LCDC_DATA[9]/EBC_SDCE1, 325 LCDC_DATA[10]/EBC_SDCE2, 327 LCDC_DATA[11]/EBC_SDCE3, 329 LCDC_DATA[12]/EBC_SDCE4, 331 LCDC_DATA[13]/EBC_SDCE5, 333 LCDC_DATA[14]/EBC_BORDER0, 335 LCDC_DATA[15]/EBC_BORDER1, 337 LCDC_DATA[16]/EBC_GDPWR0, 339 LCDC_DATA[17]/EBC_GDPWR1, 341 LCDC_DATA[18]/EBC_GDPWR2, 343 LCDC_DATA[19]/EBC_VCOM, 345 LCDC_DATA[20]/EBC_SDSHR, 347 LCDC_DATA[21]/EBC_GDOE, 349 LCDC_DATA[22]/EBC_GDSP, 351 LCDC_DATA[23]/EBC_GDRL, 353 LCDC_DEN/EBC_GDCLK, 355 LCDC_VSYNC/EBC_SDOE, 357 LCDC_HSYNC/EBC_SDLE, 359 LCDC_DCLK/EBC_SDCLK
part B pins: 240 GPIO6_B[5], 271 GPIO6_D[2], 274 GPIO6_D[1], 363 GPIO1_B[0]/VIP_DATAIN[0], 364 GPIO1_B[1]/VIP_DATAIN[1], 365 GPIO1_B[2]/VIP_DATAIN[2], 366 GPIO1_B[3]/VIP_DATAIN[3], 367 VIP_DATAIN[4], 368 VIP_DATAIN[5], 369 VIP_DATAIN[6], 370 VIP_DATAIN[7], 371 VIP_DATAIN[8], 372 VIP_DATAIN[9], 373 VIP_DATAIN[10], 374 VIP_DATAIN[11], 376 VIP_VSYNC, 378 VIP_HREF, 380 VIP_CLKIN, 382 GPIO1_B[4]/VIP_CLKOUT
part C pins: 3 GPIO0_C[6]/EBC_SDCE4/SMC_DATA[14], 4 GPIO0_C[7]/EBC_SDCE5/SMC_DATA[15], 5 GPIO0_C[0]/EBC_GDSP/SMC_DATA[8], 6 GPIO0_C[1]/EBC_GDRL/SMC_DATA[9], 7 GPIO0_B[3]/EBC_BORDER0/SMC_ADDR[3]/HOST_DATA[3], 8 GPIO0_B[4]/EBC_BORDER1/SMC_WEN, 9 GPIO0_D[1]/EBC_GDCLK/SMC_ADDR[4]/HOST_DATA[4], 10 GPIO0_B[2]/EBC_SDCE2/SMC_ADDR[2]/HOST_DATA[2], 11 GPIO0_C[3]/EBC_GDPWR1/SMC_DATA[11], 12 GPIO0_B[7]/EBC_GDOE/SMC_OEN, 13 GPIO0_D[0]/EBC_SDOE/SMC_ADVN, 14 GPIO5_C[6]/EBC_SDDO[6]/SMC_DATA[6], 15 GPIO0_C[5]/EBC_SDCE3/SMC_DATA[13], 16 GPIO0_B[1]/EBC_SDCE1/SMC_ADDR[1]/HOST_DATA[1], 17 GPIO5_C[5]/EBC_SDDO[5]/SMC_DATA[5], 18 GPIO3_D[5]/SMC_ADDR[7]/HOST_DATA[7], 19 GPIO1_A[2]/SMC_CSN1, 20 GPIO0_C[4]/EBC_GDPWR2/SMC_DATA[12], 43 GPIO3_D[6]/SMC_ADDR[8]/HOST_DATA[8], 150 GPIO3_D[4]/HOST_WRN, 151 GPIO3_D[3]/HOST_RDN, 152 GPIO3_D[2]/HOST_CSN, 153 GPIO3_D[7]/SMC_ADDR[9]/HOST_DATA[9], 154 GPIO3_A[6]/SMC_ADDR[14]/HOST_DATA[14], 155 GPIO3_C[7]/SMC_ADDR[17]/HOST_DATA[17], 156 GPIO3_C[3]/SMC_ADDR[10]/HOST_DATA[10], 157 GPIO3_C[4]/SMC_ADDR[11]/HOST_DATA[11], 158 GPIO3_D[1]/SMC_ADDR[19]/HOST_ADDR1, 159 GPIO3_C[5]/SMC_ADDR[12]/HOST_DATA[12], 160 GPIO3_C[2]/SMC_ADDR[13]/HOST_DATA[13], 161 GPIO3_C[6]/SMC_ADDR[16]/HOST_DATA[16], 162 GPIO3_A[7]/SMC_ADDR[15]/HOST_DATA[15], 163 GPIO3_D[0]/SMC_ADDR[18]/HOST_ADDR0, 386 GPIO1_A[1]/SMC_CSN0, 387 GPIO5_C[4]/EBC_SDDO[4]/SMC_DATA[4], 388 GPIO5_D[1]/EBC_SDCLK/SMC_ADDR[6]/HOST_DATA[6], 389 GPIO0_B[5]/EBC_VCOM/SMC_BLSN0, 390 GPIO5_C[0]/EBC_SDDO[0]/SMC_DATA[0], 391 GPIO5_D[0]/EBC_SDLE/SMC_ADDR[5]/HOST_DATA[5], 392 GPIO5_C[1]/EBC_SDDO[1]/SMC_DATA[1], 393 GPIO0_B[6]/EBC_SDSHR/SMC_BLSN1/HOST_INT, 394 GPIO0_C[2]/EBC_GDPWR0/SMC_DATA[10], 395 GPIO5_C[2]/EBC_SDDO[2]/SMC_DATA[2], 396 GPIO5_C[3]/EBC_SDDO[3]/SMC_DATA[3], 397 GPIO5_C[7]/EBC_SDDO[7]/SMC_DATA[7], 398 GPIO0_B[0]/EBC_SDCE0/SMC_ADDR[0]/HOST_DATA[0]
part D pins: 29 OTG_DP, 30 OTG_DM, 32 HOST20_DM, 33 HOST20_DP, 35 HOST11_DM, 36 HOST11_DP, 38 OTG_ID, 39 OTG_VBUS, 41 RTCINT_OUT, 166 GPIO4_A[5]/OTG_DRV_VBUS, 187 GPIO4_A[6]/HOST20_DRV_VBUS, 264 NPOR
part E pins: 45 FLASH_ALE, 46 FLASH_DATA[1], 47 FLASH_RDY, 48 FLASH_RDN, 49 GPIO4_B[4]/FLASH_DATA[12], 50 FLASH_DATA[0], 51 FLASH_DATA[4], 52 GPIO4_B[7]/FLASH_DATA[15], 53 GPIO4_B[5]/FLASH_DATA[13], 54 FLASH_CLE, 55 GPIO4_B[1]/FLASH_DATA[9], 56 FLASH_DATA[5], 57 FLASH_CSN0, 58 FLASH_DATA[6], 59 GPIO4_B[0]/FLASH_DATA[8], 60 FLASH_DATA[7], 61 FLASH_DATA[2], 62 FLASH_DATA[3], 63 GPIO0_D[7]/FLASH_CSN6, 64 FLASH_WP, 65 FLASH_WRN, 66 GPIO4_B[6]/FLASH_DATA[14], 67 GPIO0_D[3]/FLASH_CSN2, 68 GPIO0_D[4]/FLASH_CSN3, 69 GPIO0_D[2]/FLASH_CSN1, 70 GPIO0_D[6]/FLASH_CSN5, 71 GPIO1_A[0]/FLASH_CSN7/MDDR_TQ, 72 GPIO0_A[5]/FLASH_DQS, 73 GPIO0_D[5]/FLASH_CSN4, 74 GPIO4_B[2]/FLASH_DATA[10], 75 GPIO4_B[3]/FLASH_DATA[11], 78 GPIO3_B[3]/EMMC_DATA1, 79 GPIO3_B[1]/EMMC_CMD, 80 GPIO3_B[6]/EMMC_DATA4, 81 GPIO3_C[1]/EMMC_DATA7, 82 GPIO3_B[5]/EMMC_DATA3, 83 GPIO3_B[4]/EMMC_DATA2, 84 GPIO3_B[2]/EMMC_DATA0, 85 GPIO3_C[0]/EMMC_DATA6, 86 GPIO3_B[7]/EMMC_DATA5, 88 GPIO3_B[0]/EMMC_CLKOUT, 203 GPIO1_A[5]/EMMC_PWR_EN/PWM3, 237 GPIO6_B[7]
part F pins: 91 GPIO1_C[2]/SDMMC1_CMD, 93 GPIO1_C[7]/SDMMC1_CLKOUT, 95 GPIO1_C[4]/SDMMC1_DATA1, 96 GPIO1_C[3]/SDMMC1_DATA0, 97 GPIO1_C[6]/SDMMC1_DATA3, 98 GPIO1_C[5]/SDMMC1_DATA2, 103 GPIO1_D[3]/SDMMC0_DATA1, 104 GPIO1_D[1]/SDMMC0_CMD, 105 GPIO1_D[5]/SDMMC0_DATA3, 106 GPIO2_A[1]/SDMMC0_DATA7, 107 GPIO1_D[7]/SDMMC0_DATA5, 108 GPIO1_D[2]/SDMMC0_DATA0, 109 GPIO2_A[0]/SDMMC0_DATA6, 110 GPIO1_D[6]/SDMMC0_DATA4, 111 GPIO1_D[4]/SDMMC0_DATA2, 113 GPIO1_D[0]/SDMMC0_CLKOUT, 185 GPIO5_D[7], 193 GPIO2_A[2]/SDMMC0_DETECT_N, 208 GPIO5_D[5]/SDMMC0_PWR_EN, 209 GPIO5_D[6]/SDMMC1_PWR_EN
part G pins: 126 GPIO4_C[7]/RMII_RXD0/MII_RXD0, 127 GPIO4_C[3]/RMII_TXD0/MII_TXD0, 128 GPIO4_C[6]/RMII_RXD1/MII_RXD1, 129 GPIO4_C[1]/RMII_TX_EN/MII_TX_EN, 130 GPIO4_C[0]/RMII_CLKOUT/RMII_CLKIN, 131 GPIO4_C[2]/RMII_TXD1/MII_TXD1, 132 GPIO4_C[5]/RMII_CRS_DVALID/MII_RXD_VALID, 133 GPIO4_C[4]/RMII_RX_ERR/MII_RX_ERR, 148 GPIO5_A[3]/MII_TX_CLKIN, 149 GPIO0_A[6]/MII_MD, 189 GPIO0_A[7]/MII_MDCLK, 236 GPIO5_A[2], 248 GPIO6_B[0], 253 GPIO5_A[1], 266 TRST_N, 267 TCK, 268 TDI, 269 TMS, 270 TDO
part H pins: 135 GPIO5_A[7]/HSADC_DATA2, 136 GPIO5_B[5]/HSADC_DATA8/TS_VALID, 137 GPIO5_A[5]/HSADC_DATA0, 138 GPIO5_B[1]/HSADC_DATA4, 139 GPIO5_B[0]/HSADC_DATA3, 140 GPIO5_A[6]/HSADC_DATA1, 141 GPIO5_B[3]/HSADC_DATA6, 142 GPIO5_B[2]/HSADC_DATA5, 143 GPIO5_B[4]/HSADC_DATA7, 144 GPIO5_A[4]/TS_SYNC, 145 GPIO5_B[6]/HSADC_DATA9/TS_FAIL, 146 GPIO5_B[7]/HSADC_CLKOUT/GPS_CLK, 247 GPIO6_B[3]
part I pins: 115 GPIO2_D[1]/I2S0_SCLK/MII_CRS, 116 GPIO4_D[6]/I2S0_LRCK_TX0, 117 GPIO2_D[0]/I2S0_CLK/MII_RX_CLKIN, 118 GPIO2_D[7]/I2S0_SDO3/MII_TXD3, 119 GPIO2_D[4]/I2S0_SDO0/MII_RXD2, 120 GPIO2_D[3]/I2S0_SDI/MII_COL, 121 GPIO4_D[7]/I2S0_LRCK_TX1, 122 GPIO2_D[6]/I2S0_SDO2/MII_TXD2, 123 GPIO2_D[5]/I2S0_SDO1/MII_RXD3, 124 GPIO2_D[2]/I2S0_LRCK_RX/MII_TX_ERR, 165 GPIO4_A[7]/SPDIF_TX, 167 GPIO1_A[3]/EMMC_DETECT_N/SPI1_CSN1, 169 GPIO2_C[6]/SPI1_TXD, 170 GPIO2_C[4]/SPI1_CLK, 171 GPIO2_C[3]/SPI0_RXD, 172 GPIO2_C[2]/SPI0_TXD, 173 GPIO2_C[7]/SPI1_RXD, 174 GPIO2_C[0]/SPI0_CLK, 175 GPIO2_C[1]/SPI0_CSN0, 176 GPIO2_C[5]/SPI1_CSN0, 177 GPIO1_A[6]/I2C1_SDA, 178 GPIO1_A[7]/I2C1_SCL, 192 GPIO1_A[4]/EMMC_WRITE_PRT/SPI0_CSN1, 196 GPIO2_B[7]/I2C0_SCL, 197 GPIO2_B[6]/I2C0_SDA, 205 GPIO5_D[3]/I2C2_SDA, 206 GPIO5_D[4]/I2C2_SCL, 212 GPIO2_B[2]/UART3_SIN, 213 GPIO1_B[6]/UART0_SIN, 214 GPIO2_A[5]/UART1_SOUT, 215 GPIO2_B[1]/UART2_SOUT, 216 GPIO2_B[3]/UART3_SOUT, 217 GPIO2_A[4]/UART1_SIN, 218 GPIO2_B[5]/UART3_RTS_N/I2C3_SCL, 219 GPIO2_B[4]/UART3_CTS_N/I2C3_SDA, 220 GPIO2_B[0]/UART2_SIN, 221 GPIO2_A[6]/UART2_CTS_N, 222 GPIO1_B[7]/UART0_SOUT, 223 GPIO2_A[7]/UART2_RTS_N, 224 GPIO1_C[1]/UART0_RTS_N/SDMMC1_WRITE_PRT, 225 GPIO1_C[0]/UART0_CTS_N/SDMMC1_DETECT_N, 227 GPIO3_A[0]/I2S1_CLK, 228 GPIO3_A[2]/I2S1_LRCK_RX, 229 GPIO3_A[1]/I2S1_SCLK, 230 GPIO3_A[3]/I2S1_SDI, 231 GPIO3_A[4]/I2S1_SDO, 232 GPIO3_A[5]/I2S1_LRCK_TX
part J pins: 23 SARADC_AIN[0], 24 SARADC_AIN[1], 25 SARADC_AIN[2], 26 SARADC_AIN[3], 179 GPIO6_C[3], 180 GPIO6_C[7], 181 GPIO6_C[4], 182 GPIO6_C[0], 183 GPIO4_D[0], 184 GPIO6_C[1], 186 GPIO6_C[2], 188 GPIO6_C[6], 190 GPIO4_D[1], 191 GPIO4_D[5], 194 GPIO4_D[4], 195 GPIO6_C[5], 198 GPIO4_D[2], 204 GPIO2_A[3]/SDMMC0_WRITE_PRT/PWM2/UART1_SIR_OUT, 207 GPIO4_D[3], 210 GPIO5_D[2]/PWM1/UART1_SIR_IN, 234 GPIO6_A[4], 235 GPIO6_A[3], 238 GPIO6_A[0], 239 GPIO6_B[6], 241 GPIO6_A[1], 242 GPIO6_A[5], 243 GPIO6_B[4], 244 GPIO6_A[2], 245 GPIO6_A[6], 246 GPIO6_A[7], 249 GPIO5_A[0], 250 GPIO6_B[2], 251 GPIO6_B[1], 252 GPIO0_A[1], 254 GPIO0_A[0], 255 GPIO0_A[2], 256 GPIO0_A[4], 257 GPIO0_A[3], 258 GPIO4_A[3], 259 GPIO4_A[0], 260 GPIO4_A[1], 261 GPIO4_A[2], 262 GPIO4_A[4]
part K pins: 1 GND, 2 GND, 21 GND, 22 GND, 27 GND, 28 GND, 31 GND, 34 GND, 37 GND, 40 GND, 42 GND, 44 GND, 76 GND, 77 GND, 87 GND, 89 GND, 90 GND, 92 GND, 94 GND, 99 GND, 100 GND, 101 GND, 102 GND, 112 GND, 114 GND, 125 GND, 134 GND, 147 GND, 164 GND, 168 GND, 199 GND, 200 GND, 201 GND, 202 GND, 226 GND, 233 GND, 263 GND, 265 GND, 275 TopBoard_DET0, 276 TopBoard_DET1, 277 GND, 278 VB, 279 GND, 280 VCC18, 281 GND, 282 VCC25, 283 GND, 284 VCCA, 285 GND, 286 VCC, 287 GND, 288 GND, 289 VDD, 290 VDD, 291 VDD, 292 VDD, 293 GND, 294 GND, 295 VCCDR, 296 VCCDR, 297 VCCDR, 298 VCCDR, 299 GND, 300 GND, 301 GND, 302 GND, 303 GND, 304 GND, 306 GND, 308 GND, 310 GND, 312 GND, 314 GND, 316 GND, 318 GND, 320 GND, 322 GND, 324 GND, 326 GND, 328 GND, 330 GND, 332 GND, 334 GND, 336 GND, 338 GND, 340 GND, 342 GND, 344 GND, 346 GND, 348 GND, 350 GND, 352 GND, 354 GND, 356 GND, 358 GND, 360 GND, 361 GND, 362 GND, 375 GND, 377 GND, 379 GND, 381 GND, 383 GND, 384 GND, 385 GND, 399 GND, 400 GND
part A text: LCDC Module; (LCDC_DISP); (LCDC_CS)
part B text: VIP  Module; (Flash_LED); (VIP_PWDN0); (VIP_PWDN1)
part C text: SRAM/EBC/HOST  Module
part D text: USB/Crystal/NPOR / Module
part E text: NAND FLASH/EMMC / Module; NAND FLASH; EMMC; (EMMC_RESET)
part F text: SDMMC  Module; (WIFI_RST)
part G text: RMII/MII/JTAG  Module; (RMII_PWR); (RMII_LINK); (RMII_INT); JTAG
part H text: HSADC  Module; (TV_PWR)
part I text: I2S/I2C/UART/SPI  Module; I2S0; SPDIF_TX; I2S1; I2C0; I2C1; I2C2; I2C3; UART0; UART1; UART2; UART3; SPI0; SPI1
part J text: GPIO/PWM/ADC  Module; (IR_INT); (POWER_ON); (COMP_INT); (PWR_KEY); (RTC_INT); (DC_DET); (CHG_OK); (BAT_LOW); (VOL+); (VOL-); (HOME); (ENT); (SEARCH); (FFD); (ESC); (FFW); (SENSOR_ON); (UP); (DOWN); (GPS_RST); (GPS_PWR); (MENU); (VCCEN_CON); (RECOER); (KEY_LED); (SPK_CTL); (GSENSOR_INT); (3G_DISABLE); (3G_RST); (SIM_DET); (3G_PWR)
part K text: POWER  Module

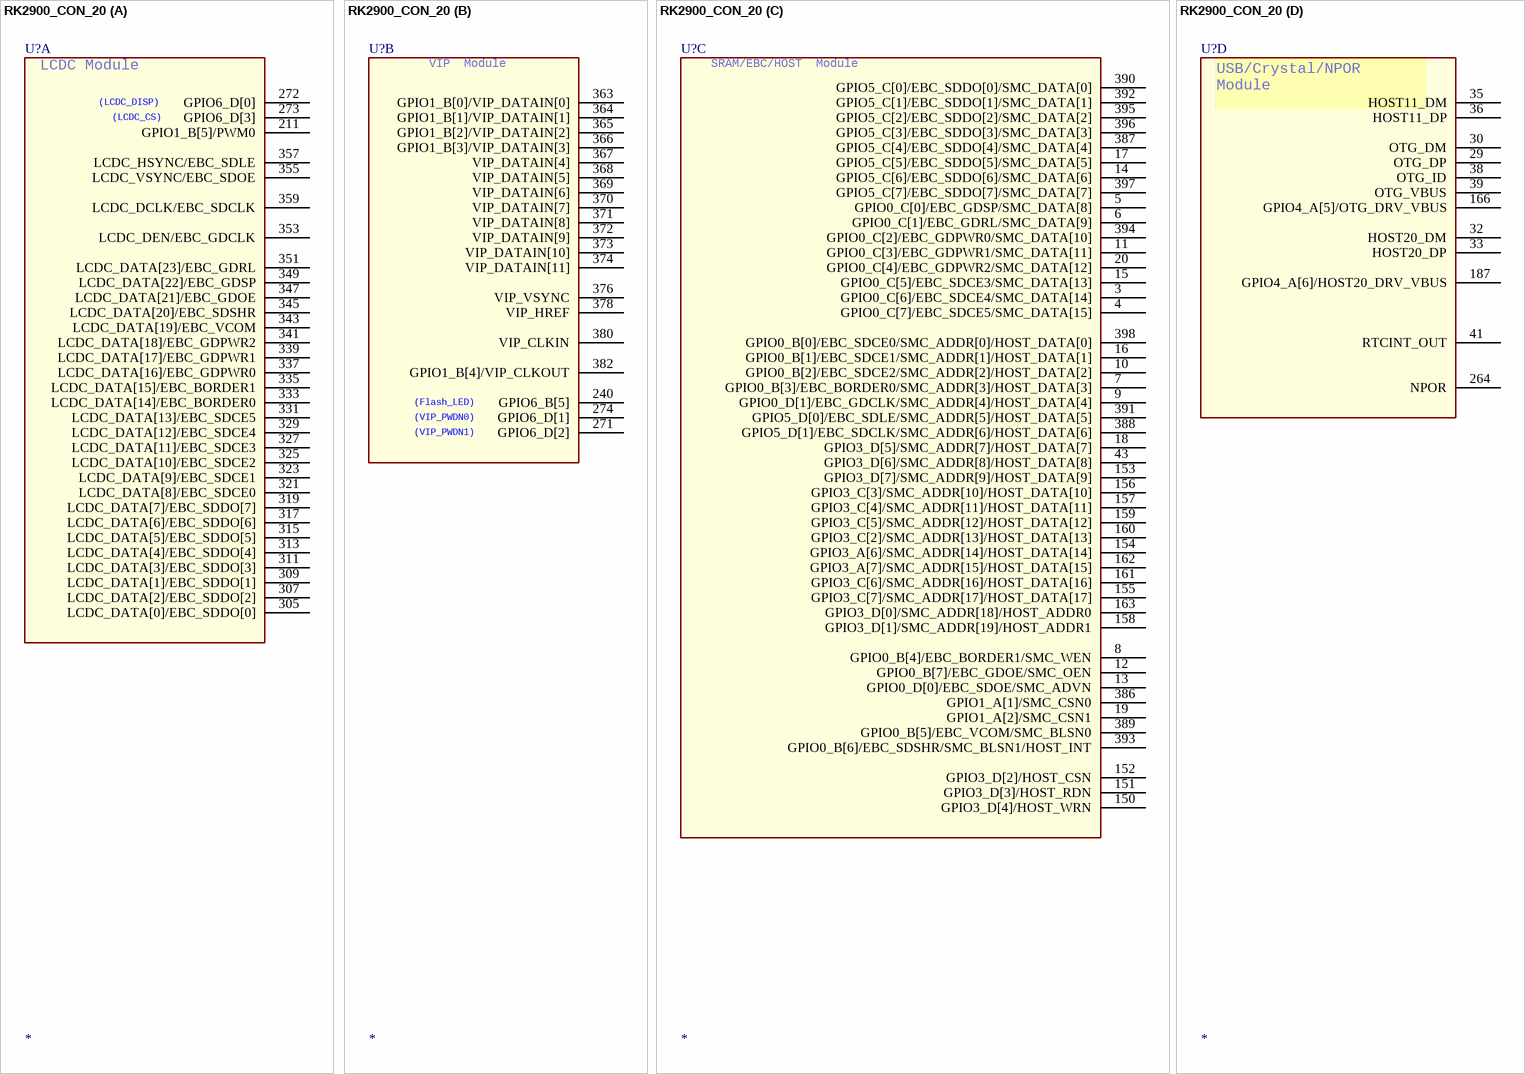
[diagram p108: symbol RK2900_CON_20]

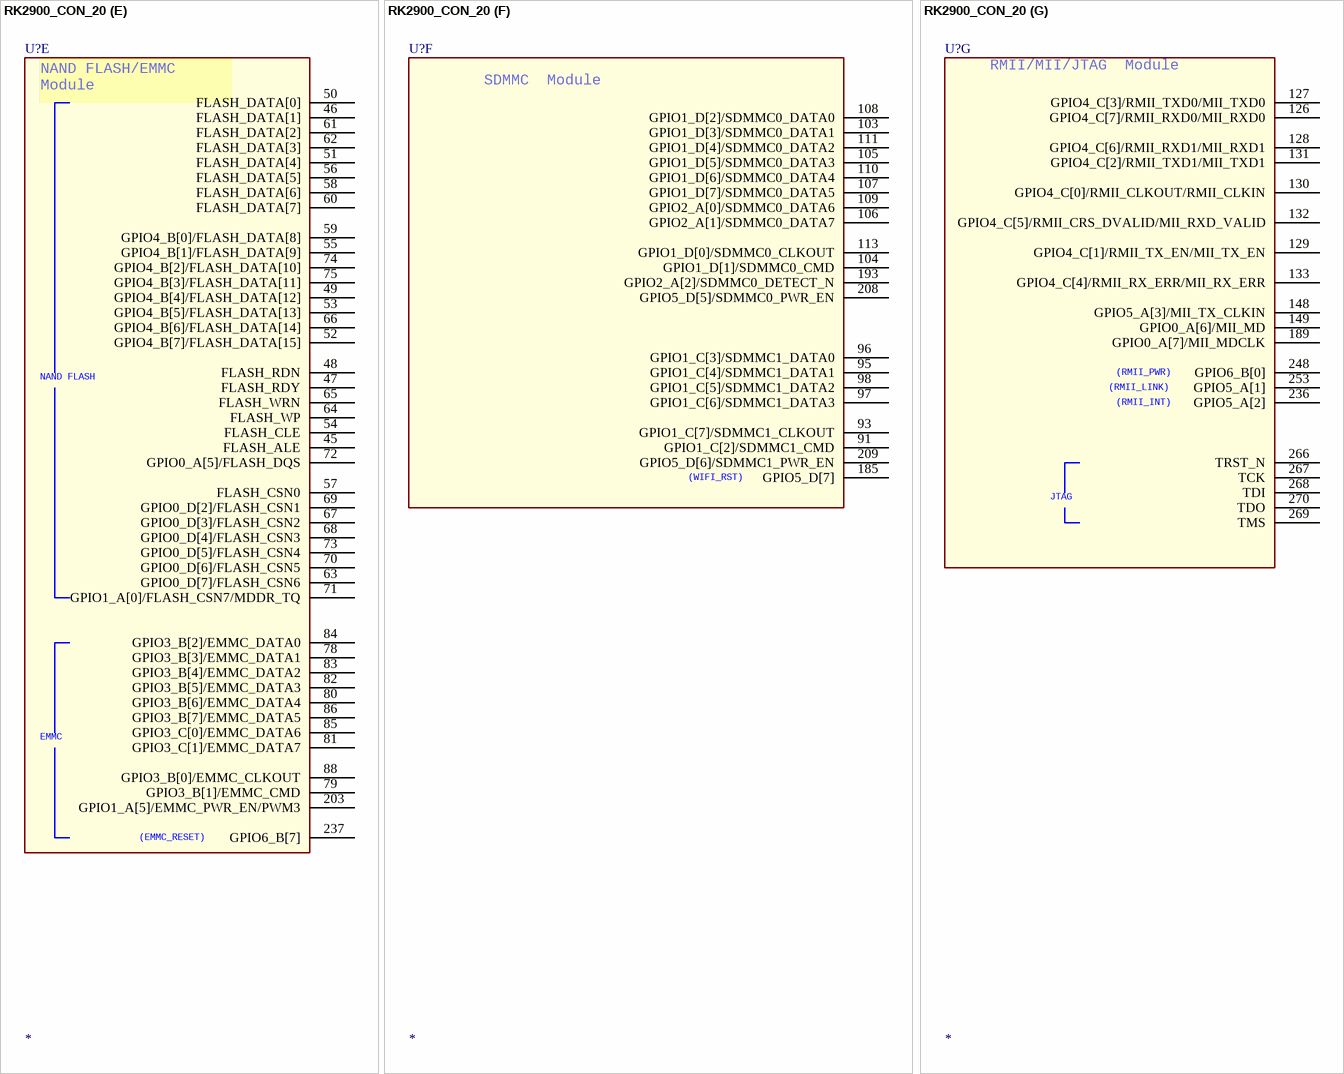
[diagram p109: symbol RK2900_CON_20]

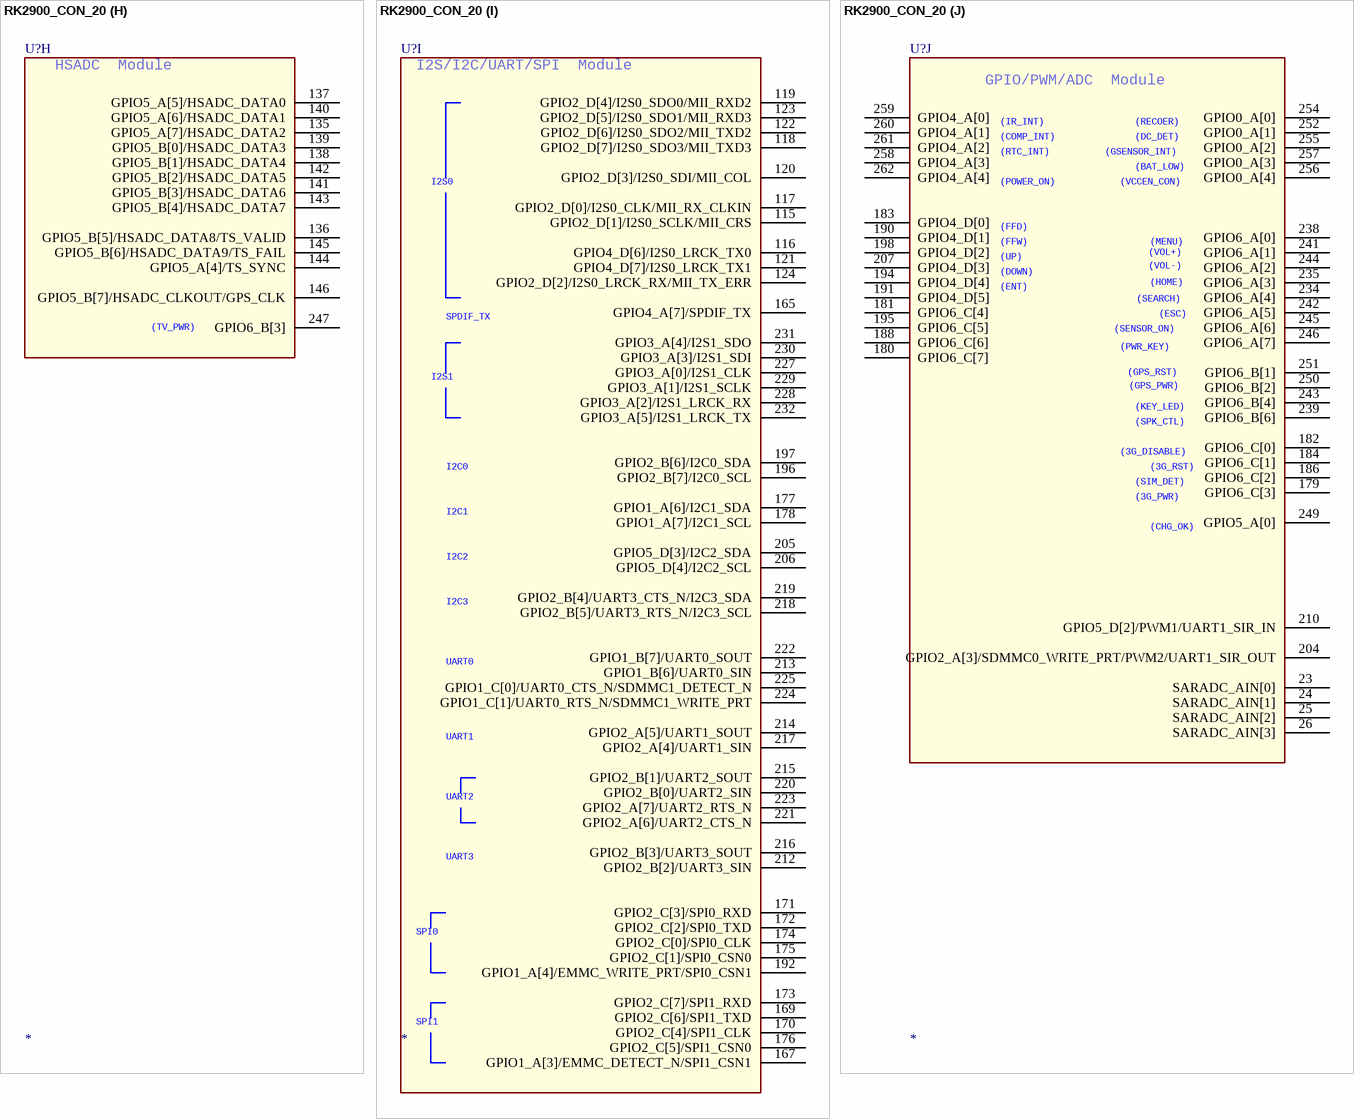
[diagram p110: symbol RK2900_CON_20]

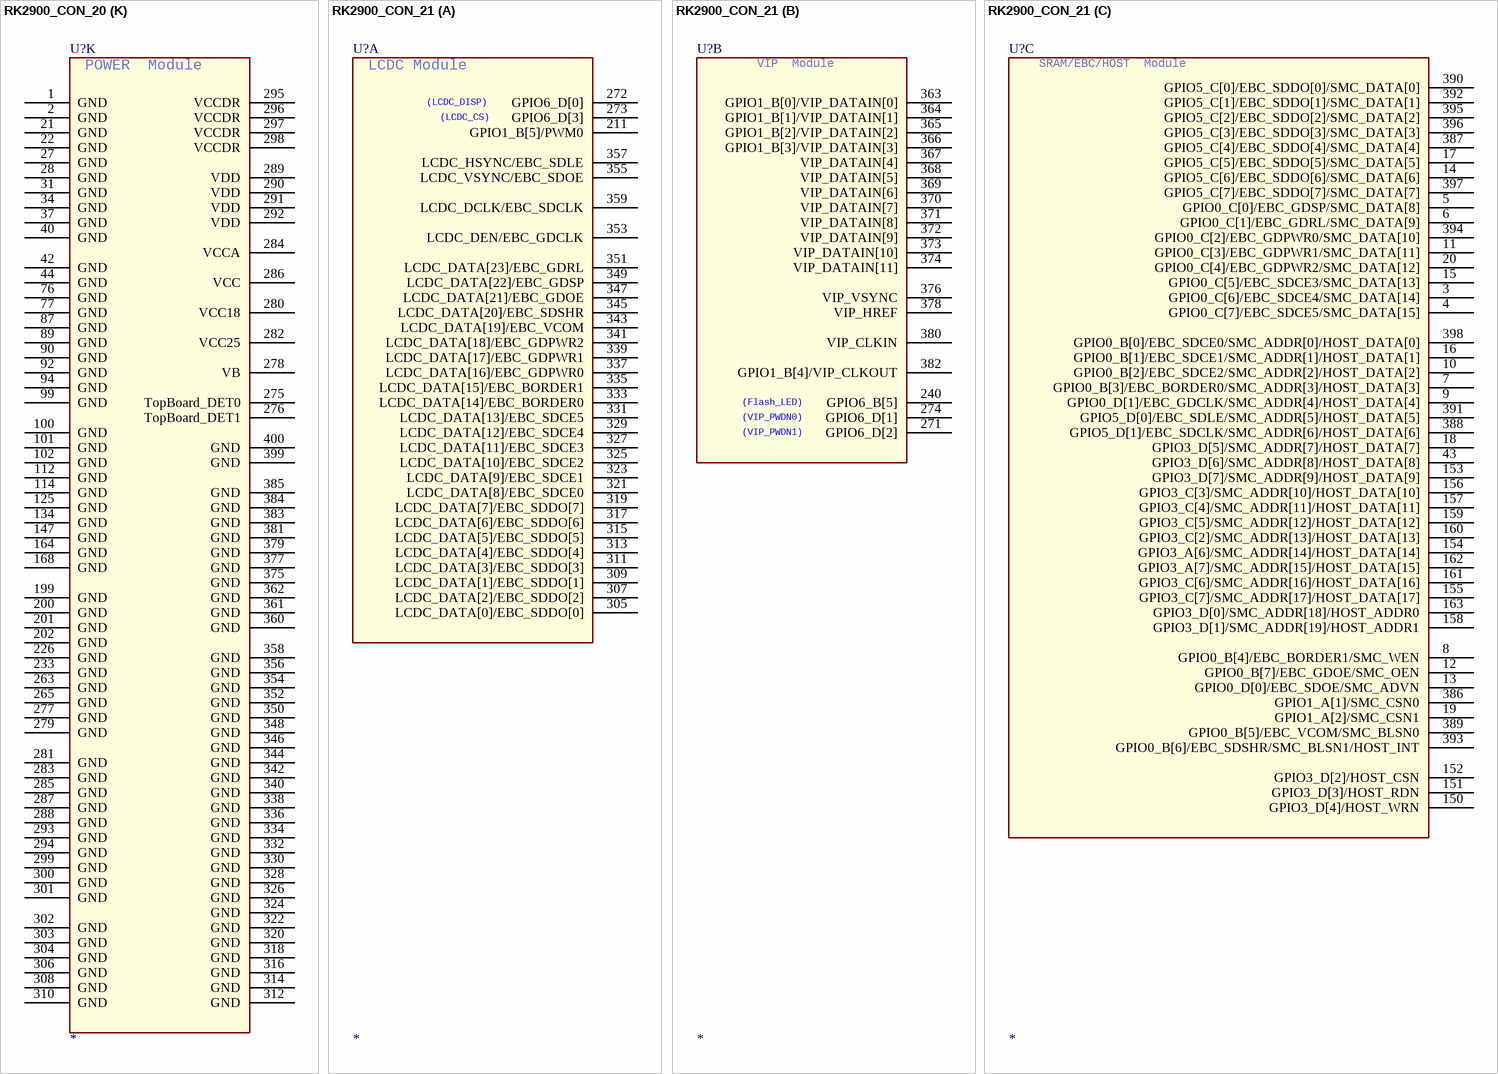
[diagram p111: symbols RK2900_CON_20 to RK2900_CON_21]